# Altium schematic symbol library Research.SchLib: 62 symbols
Pins are listed as number, name and electrical type; pins without a type are passive.

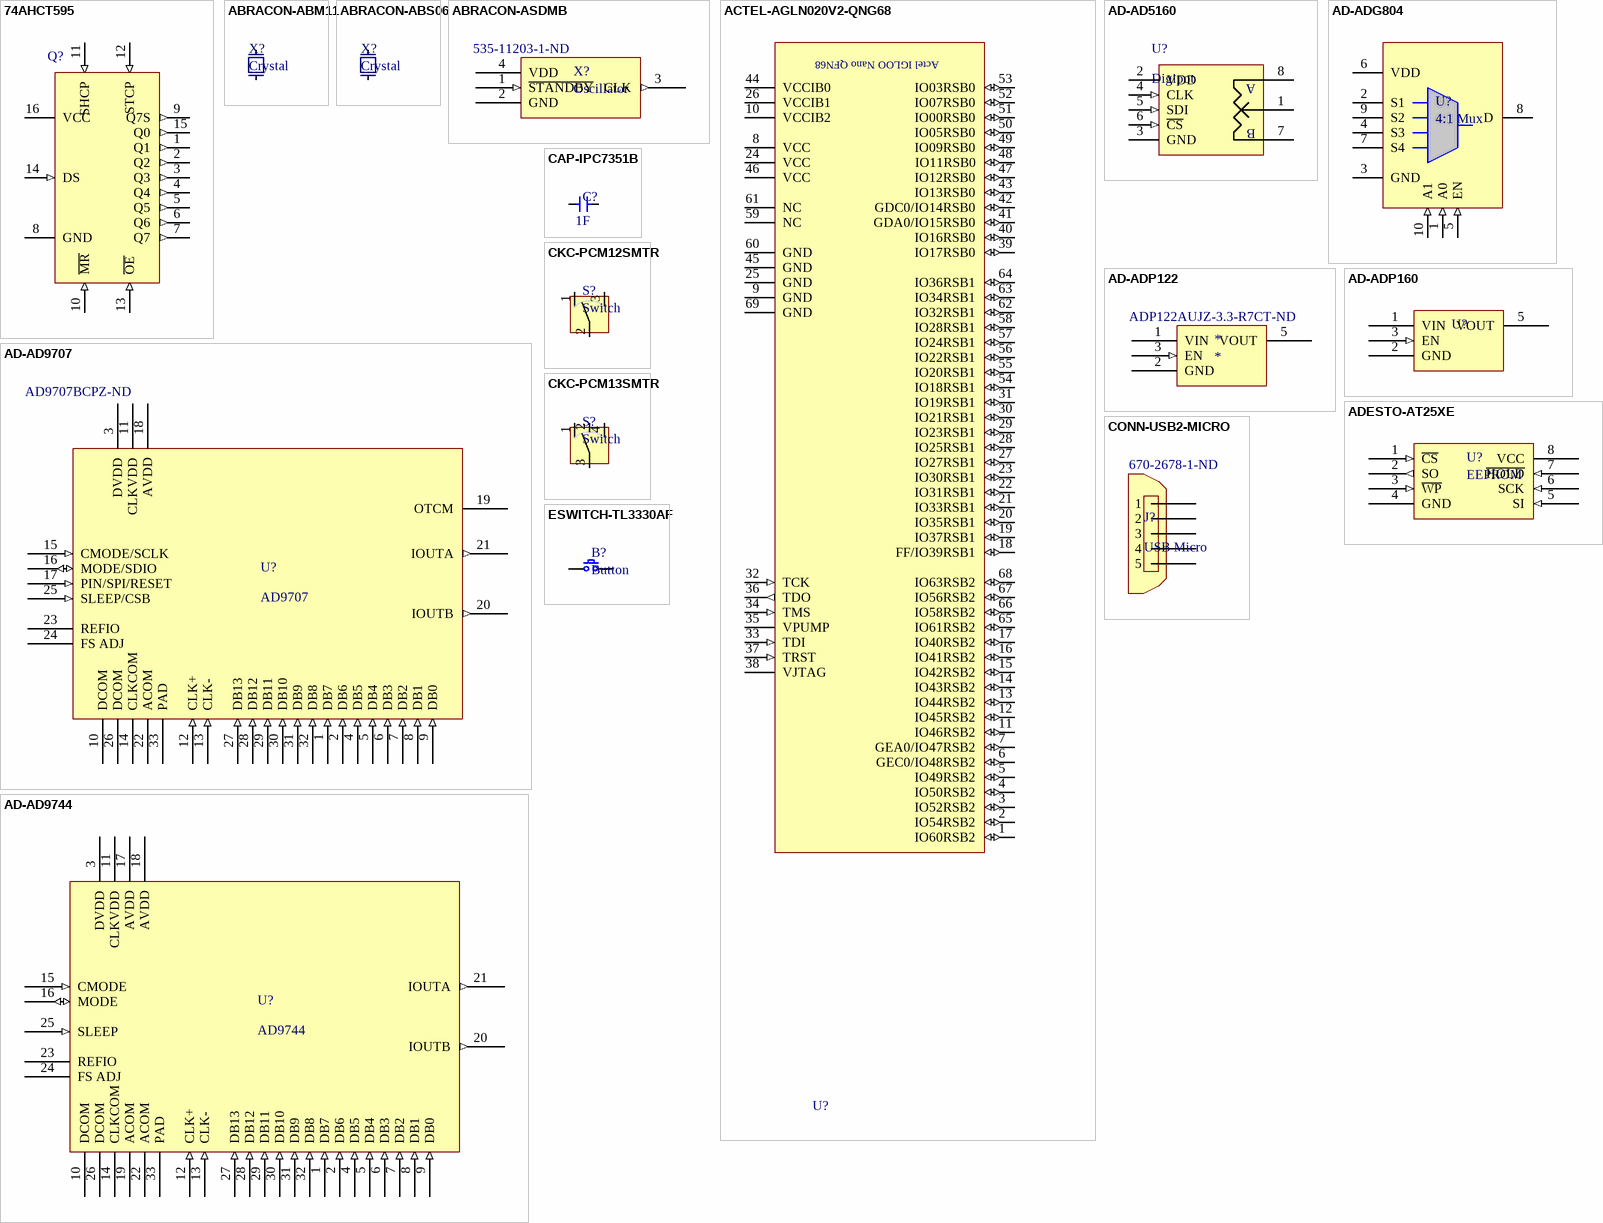
[diagram p0: symbols 74AHCT595 to ESWITCH-TL3330AF]

## 74AHCT595
designator Q?, comment Shift Register  (value not drawn)
8-bit serial-in/serial-out or parallel-out shift register with output latches
footprint TSOP65P640X110-16N (TSOP, 16-Leads, Body 5.00x4.40mm, Pitch 0.65mm, IPC Medium Density)
pins: 1 Q1 (out), 2 Q2 (out), 3 Q3 (out), 4 Q4 (out), 5 Q5 (out), 6 Q6 (out), 7 Q7 (out), 8 GND (power), 9 Q7S (out), 10 ~{MR} (in), 11 SHCP (in), 12 STCP (in), 13 ~{OE} (in), 14 DS (in), 15 Q0 (out), 16 VCC (power)

## ABRACON-ABM11
designator X?, comment Crystal
Ceramics SMD Ultra Miniature Quartz Crystal
footprint ABRACON-ABM11 (Ceramics SMD Ultra Miniature Quartz Crystal)
pins: 1, 2 (power) hidden to GND, 3, 4 (power) hidden to GND

## ABRACON-ABS06
designator X?, comment Crystal
32.768 kHz SMD low profile crystal
footprint ABRACON-ABS06 (32.768kHz SMD LOW PROFILE CRYSTAL)
pins: 1, 2

## ABRACON-ASDMB
designator X?, comment Oscillator  Supplier Part Number 1: 535-11203-1-ND
Abracon MEMS Clock Oscillator; Supplier 1: Digi-Key
footprint ABRACON-ASDMB (Abracon MEMS Clock Oscillator)
pins: 1 ~{STANDBY} (in), 2 GND (power), 3 CLK (out), 4 VDD (power)

## ACTEL-AGLN020V2-QNG68
designator U?, comment IGLOO nano  (value not drawn)
IGLOO nano Low Power Flash FPGA
footprint QFN40P800X800X100_HS-69N (QFN, 68-Leads, Body 8.00x8.00mm, Pitch 0.40mm, Thermal Pad 2.92x2.92mm, IPC Medium Density)
pins: 1 IO60RSB2 (io), 2 IO54RSB2 (io), 3 IO52RSB2 (io), 4 IO50RSB2 (io), 5 IO49RSB2 (io), 6 GEC0/IO48RSB2 (io), 7 GEA0/IO47RSB2 (io), 8 VCC (power), 9 GND (power), 10 VCCIB2 (power), 11 IO46RSB2 (io), 12 IO45RSB2 (io), 13 IO44RSB2 (io), 14 IO43RSB2 (io), 15 IO42RSB2 (io), 16 IO41RSB2 (io), 17 IO40RSB2 (io), 18 FF/IO39RSB1 (io), 19 IO37RSB1 (io), 20 IO35RSB1 (io), 21 IO33RSB1 (io), 22 IO31RSB1 (io), 23 IO30RSB1 (io), 24 VCC (power), 25 GND (power), 26 VCCIB1 (power), 27 IO27RSB1 (io), 28 IO25RSB1 (io), 29 IO23RSB1 (io), 30 IO21RSB1 (io), 31 IO19RSB1 (io), 32 TCK (in), 33 TDI (in), 34 TMS (in), 35 VPUMP (power), 36 TDO (out), 37 TRST (in), 38 VJTAG (power), 39 IO17RSB0 (io), 40 IO16RSB0 (io), 41 GDA0/IO15RSB0 (io), 42 GDC0/IO14RSB0 (io), 43 IO13RSB0 (io), 44 VCCIB0 (power), 45 GND (power), 46 VCC (power), 47 IO12RSB0 (io), 48 IO11RSB0 (io), 49 IO09RSB0 (io), 50 IO05RSB0 (io), 51 IO00RSB0 (io), 52 IO07RSB0 (io), 53 IO03RSB0 (io), 54 IO18RSB1 (io), 55 IO20RSB1 (io), 56 IO22RSB1 (io), 57 IO24RSB1 (io), 58 IO28RSB1 (io), 59 NC, 60 GND (power), 61 NC, 62 IO32RSB1 (io), 63 IO34RSB1 (io), 64 IO36RSB1 (io), 65 IO61RSB2 (io), 66 IO58RSB2 (io), 67 IO56RSB2 (io), 68 IO63RSB2 (io), 69 GND (power)
text: Actel IGLOO Nano QFN68

## AD-AD5160
designator U?, comment Digipot
256-Position SPI-Compatible Digital Potentiometer
footprint TSOP65P280X145-8N (TSOP, 8-Leads, Body 2.90x1.60mm, Pitch 0.65mm, IPC Medium Density)
footprint TSOP65P280X145-8L (TSOP, 8-Leads, Body 2.90x1.60mm, Pitch 0.65mm, IPC High Density)
pins: 1 W, 2 VDD (power), 3 GND (power), 4 CLK (in), 5 SDI (in), 6 ~{CS} (in), 7 B, 8 A

## AD-AD9707
designator U?, comment AD9707  Supplier Part Number 1: AD9707BCPZ-ND
14-Bit, 175 MSPS 4th Generation TxDAC; Supplier 1: Digi-Key
footprint QFN50P500X500X100_HS-33N (QFN, 32-Leads, Body 5.00x5.00mm, Pitch 0.50mm, Thermal Pad 3.10x3.10mm, IPC Medium Density)
pins: 1 DB7 (in), 2 DB6 (in), 3 DVDD (power), 4 DB5 (in), 5 DB4 (in), 6 DB3 (in), 7 DB2 (in), 8 DB1 (in), 9 DB0 (in), 10 DCOM (power), 11 CLKVDD (power), 12 CLK+ (in), 13 CLK- (in), 14 CLKCOM (power), 15 CMODE/SCLK (in), 16 MODE/SDIO (io), 17 PIN/SPI/RESET (in), 18 AVDD (power), 19 OTCM, 20 IOUTB (out), 21 IOUTA (out), 22 ACOM (power), 23 REFIO (power), 24 FS ADJ, 25 SLEEP/CSB (in), 26 DCOM (power), 27 DB13 (in), 28 DB12 (in), 29 DB11 (in), 30 DB10 (in), 31 DB9 (in), 32 DB8 (in), 33 PAD (power)

## AD-AD9744
designator U?, comment AD9744
14-Bit, 210 MSPS 3rd Generation TxDAC
footprint QFN50P500X500X80_HS-33N (QFN, 32-Leads, Body 5.00x5.00mm, Pitch 0.50mm, Thermal Pad 3.10x3.10mm, IPC Medium Density)
pins: 1 DB7 (in), 2 DB6 (in), 3 DVDD (power), 4 DB5 (in), 5 DB4 (in), 6 DB3 (in), 7 DB2 (in), 8 DB1 (in), 9 DB0 (in), 10 DCOM (power), 11 CLKVDD (power), 12 CLK+ (in), 13 CLK- (in), 14 CLKCOM (power), 15 CMODE (in), 16 MODE (io), 17 AVDD (power), 18 AVDD (power), 19 ACOM (power), 20 IOUTB (out), 21 IOUTA (out), 22 ACOM (power), 23 REFIO (power), 24 FS ADJ, 25 SLEEP (in), 26 DCOM (power), 27 DB13 (in), 28 DB12 (in), 29 DB11 (in), 30 DB10 (in), 31 DB9 (in), 32 DB8 (in), 33 PAD (power)

## AD-ADG804
designator U?, comment 4:1 Mux
0.5 O CMOS 1.65 V TO 3.6 V  4-Channel Multiplexer
footprint TSSOP50P490X110-10N (TSSOP, 10-Leads, Body 3.00x3.00mm, Pitch 0.50mm, IPC Medium Density)
pins: 1 A0 (in), 2 S1, 3 GND (power), 4 S3, 5 EN (in), 6 VDD (power), 7 S4, 8 D, 9 S2, 10 A1 (in)

## AD-ADP122
designator *  Supplier Part Number 1: ADP122AUJZ-3.3-R7CT-ND
Supplier 1: Digi-Key
footprint SOT95P280X100-5L (SOT23, 5-Leads, Body 2.90x2.80mm, Pitch 0.95mm, IPC High Density)
pins: 1 VIN (power), 2 GND (power), 3 EN (in), 4 NC hidden, 5 VOUT (power)

## AD-ADP160
designator U?, comment LDO  (value not drawn)
footprint SOT95P280X100-5L (SOT23, 5-Leads, Body 2.90x2.80mm, Pitch 0.95mm, IPC High Density)
pins: 1 VIN (power), 2 GND (power), 3 EN (in), 4 NC hidden, 5 VOUT (power)

## ADESTO-AT25XE
designator U?, comment EEPROM
Adesto SPI Serial Flash Memory with Dual-I/O Support
footprint DFN50P200X300X60-8N (DFN, 8-Leads, Body 2.00x3.00mm, Pitch 0.50mm, IPC Medium Density)
pins: 1 ~{CS} (in) "Chip Select", 2 SO (out) "Serial Data Output", 3 ~{WP} (in) "Write Protect", 4 GND (power) "Ground", 5 SI (in) "Serial Data Input", 6 SCK (in) "Serial Clock", 7 ~{HOLD} (in) "Hold", 8 VCC (power) "Supply Voltage"

## CAP-IPC7351B
designator C?, comment 1F
SMD Capacitor Following IPC-7351B Based on TDK's Product Line; Value: 1F
footprint CAPC0603X03L (Chip Capacitor, 2-Leads, Body 0.60x0.30mm, IPC High Density)
footprint CAPC0603X03M (Chip Capacitor, 2-Leads, Body 0.60x0.30mm, IPC Low Density)
footprint CAPC0603X03N (Chip Capacitor, 2-Leads, Body 0.60x0.30mm, IPC Medium Density)
footprint CAPC1005X05L (Chip Capacitor, 2-Leads, Body 1.00x0.50mm, IPC High Density)
footprint CAPC1005X05M (Chip Capacitor, 2-Leads, Body 1.00x0.50mm, IPC Low Density)
footprint CAPC1005X05N (Chip Capacitor, 2-Leads, Body 1.00x0.50mm, IPC Medium Density)
footprint CAPC1608X08L (Chip Capacitor, 2-Leads, Body 1.60x0.80mm, IPC High Density)
footprint CAPC1608X08M (Chip Capacitor, 2-Leads, Body 1.60x0.80mm, IPC Low Density)
footprint CAPC1608X08N (Chip Capacitor, 2-Leads, Body 1.60x0.80mm, IPC Medium Density)
footprint CAPC2012X12L (Chip Capacitor, 2-Leads, Body 2.00x1.25mm, IPC High Density)
footprint CAPC2012X12M (Chip Capacitor, 2-Leads, Body 2.00x1.25mm, IPC Low Density)
footprint CAPC2012X12N (Chip Capacitor, 2-Leads, Body 2.00x1.25mm, IPC Medium Density)
footprint CAPC3216X16L (Chip Capacitor, 2-Leads, Body 3.20x1.60mm, IPC High Density)
footprint CAPC3216X16M (Chip Capacitor, 2-Leads, Body 3.20x1.60mm, IPC Low Density)
footprint CAPC3216X16N (Chip Capacitor, 2-Leads, Body 3.20x1.60mm, IPC Medium Density)
footprint CAPC3225X25L (Chip Capacitor, 2-Leads, Body 3.20x2.50mm, IPC High Density)
footprint CAPC3225X25M (Chip Capacitor, 2-Leads, Body 3.20x2.50mm, IPC Low Density)
footprint CAPC3225X25N (Chip Capacitor, 2-Leads, Body 3.20x2.50mm, IPC Medium Density)
pins: 1, 2

## CKC-PCM12SMTR
designator S?, comment Switch
C&K Components SPDT Switch, Right Angle
footprint CKC-PCM12SMTR (C&K Components Ultraminiature Surface Mount Slide Switch)
pins: 1, 2, 3

## CKC-PCM13SMTR
designator S?, comment Switch
C&K Components SPTT Switch, Right Angle
footprint CKC-PCM13SMTR (C&K Components Ultraminiature Surface Mount Slide Switch)
pins: 1, 2, 3, 4

## CONN-USB2-MICRO
designator J?, comment USB Micro  Supplier Part Number 1: 670-2678-1-ND
USB 2.0 Micro Connector; Supplier 1: Digi-Key
footprint JAE-DX4R005JJ7R1500 (JAE Inline Micro USB Connector)
pins: 1, 2, 3, 4, 5

## ESWITCH-TL3330AF
designator B?, comment Button
E-Switch TL3330AF Series
footprint ESWITCH-TL3330AF (E-Switch TL3330AF Series Tactile Switch)
pins: 1, 2

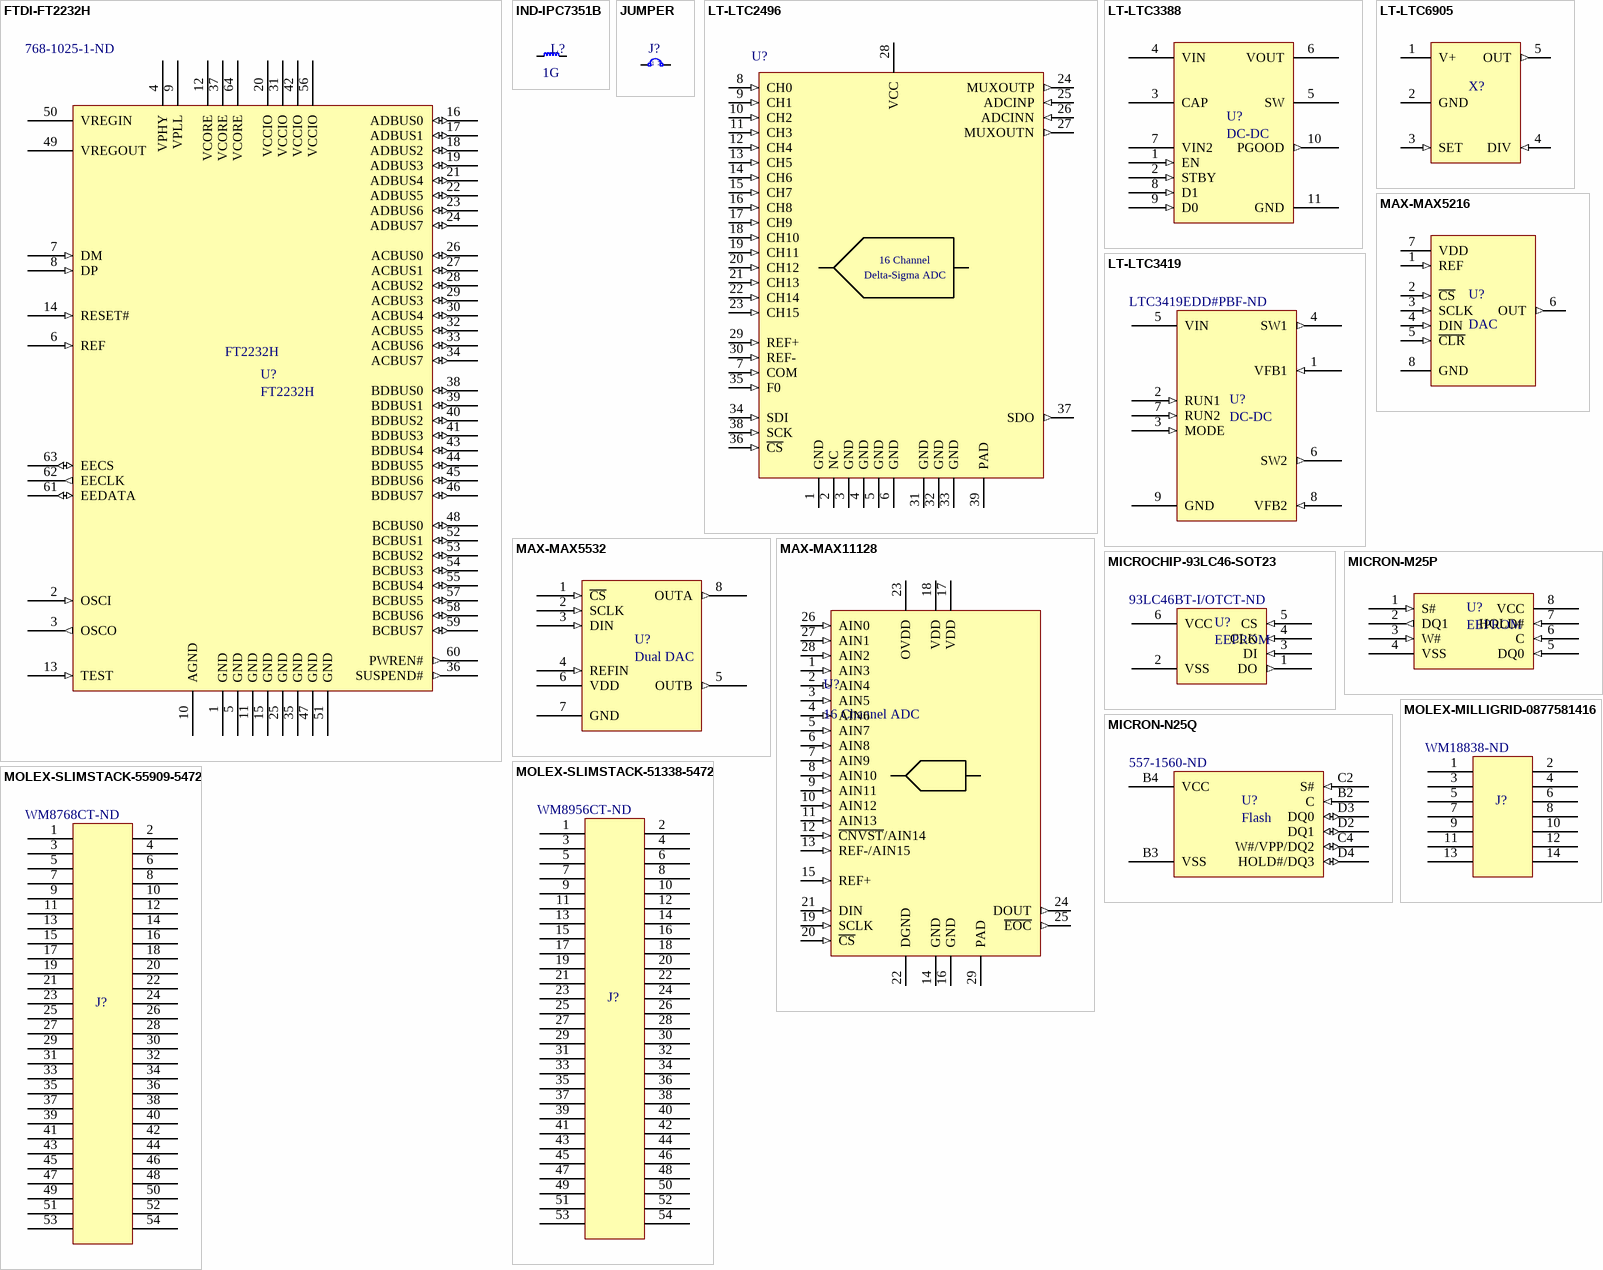
[diagram p1: symbols FTDI-FT2232H to MOLEX-SLIMSTACK-55909-5472]

## FTDI-FT2232H
designator U?, comment FT2232H  Supplier Part Number 1: 768-1025-1-ND
FTDI High-Speed USB to UART/JTAG/FIFO Bridge; Supplier 1: Digi-Key
footprint QFN50P900X900X91-64N (QFN, 64-Leads, Body 9.00x9.00mm, Pitch 0.50mm, IPC Medium Density)
pins: 1 GND (power), 2 OSCI (in), 3 OSCO (out), 4 VPHY (power), 5 GND (power), 6 REF (in), 7 DM (in), 8 DP (in), 9 VPLL (power), 10 AGND (power), 11 GND (power), 12 VCORE (power), 13 TEST (in), 14 RESET# (in), 15 GND (power), 16 ADBUS0 (io), 17 ADBUS1 (io), 18 ADBUS2 (io), 19 ADBUS3 (io), 20 VCCIO (power), 21 ADBUS4 (io), 22 ADBUS5 (io), 23 ADBUS6 (io), 24 ADBUS7 (io), 25 GND (power), 26 ACBUS0 (io), 27 ACBUS1 (io), 28 ACBUS2 (io), 29 ACBUS3 (io), 30 ACBUS4 (io), 31 VCCIO (power), 32 ACBUS5 (io), 33 ACBUS6 (io), 34 ACBUS7 (io), 35 GND (power), 36 SUSPEND# (out), 37 VCORE (power), 38 BDBUS0 (io), 39 BDBUS1 (io), 40 BDBUS2 (io), 41 BDBUS3 (io), 42 VCCIO (power), 43 BDBUS4 (io), 44 BDBUS5 (io), 45 BDBUS6 (io), 46 BDBUS7 (io), 47 GND (power), 48 BCBUS0 (io), 49 VREGOUT (power), 50 VREGIN (power), 51 GND (power), 52 BCBUS1 (io), 53 BCBUS2 (io), 54 BCBUS3 (io), 55 BCBUS4 (io), 56 VCCIO (power), 57 BCBUS5 (io), 58 BCBUS6 (io), 59 BCBUS7 (io), 60 PWREN# (out), 61 EEDATA (io), 62 EECLK (out), 63 EECS (io), 64 VCORE (power)

## IND-IPC7351B
designator L?  value 1G
SMD Inductor Following IPC-7351B Based on Murata's EMIFIL Product Line
footprint INDC1005X06L (Chip Inductor, 2-Leads, Body 1.00x0.50mm, IPC High Density)
footprint INDC1005X06M (Chip Inductor, 2-Leads, Body 1.00x0.50mm, IPC Low Density)
footprint INDC1005X06N (Chip Inductor, 2-Leads, Body 1.00x0.50mm, IPC Medium Density)
footprint INDC1608X09L (Chip Inductor, 2-Leads, Body 1.60x0.80mm, IPC High Density)
footprint INDC1608X09M (Chip Inductor, 2-Leads, Body 1.60x0.80mm, IPC Low Density)
footprint INDC1608X09N (Chip Inductor, 2-Leads, Body 1.60x0.80mm, IPC Medium Density)
pins: 1, 2

## JUMPER
designator J?, comment Jumper  (value not drawn)
footprint CONNECTOR-2POS-1ROW-2.54MM (Connector, 2 Positions, 1 Row, 2.54mm Spacing)
footprint RESC0603X03L (Chip Resistor, 2-Leads, Body 0.60x0.30mm, IPC High Density)
footprint RESC0603X03M (Chip Resistor, 2-Leads, Body 0.60x0.30mm, IPC Low Density)
footprint RESC0603X03N (Chip Resistor, 2-Leads, Body 0.60x0.30mm, IPC Medium Density)
footprint RESC1005X04L (Chip Resistor, 2-Leads, Body 1.00x0.52mm, IPC High Density)
footprint RESC1005X04M (Chip Resistor, 2-Leads, Body 1.00x0.52mm, IPC Low Density)
footprint RESC1005X04N (Chip Resistor, 2-Leads, Body 1.00x0.52mm, IPC Medium Density)
footprint RESC1608X06L (Chip Resistor, 2-Leads, Body 1.60x0.80mm, IPC High Density)
footprint RESC1608X06M (Chip Resistor, 2-Leads, Body 1.60x0.80mm, IPC Low Density)
footprint RESC1608X06N (Chip Resistor, 2-Leads, Body 1.60x0.80mm, IPC Medium Density)
pins: 1, 2

## LT-LTC2496
designator U?, comment 16 Channel ADC  (value not drawn)
16-Bit 8-/16-Channel  ?S ADC with Easy Drive  Input Current Cancellation
footprint QFN50P700X500X80_HS-39N (QFN, 38-Leads, Body 7.00x5.00mm, Pitch 0.50mm, Thermal Pad 5.15x3.15mm, IPC Medium Density)
pins: 1 GND (power), 2 NC, 3 GND (power), 4 GND (power), 5 GND (power), 6 GND (power), 7 COM (in), 8 CH0 (in), 9 CH1 (in), 10 CH2 (in), 11 CH3 (in), 12 CH4 (in), 13 CH5 (in), 14 CH6 (in), 15 CH7 (in), 16 CH8 (in), 17 CH9 (in), 18 CH10 (in), 19 CH11 (in), 20 CH12 (in), 21 CH13 (in), 22 CH14 (in), 23 CH15 (in), 24 MUXOUTP (out), 25 ADCINP (in), 26 ADCINN (in), 27 MUXOUTN (out), 28 VCC (power), 29 REF+ (in), 30 REF- (in), 31 GND (power), 32 GND (power), 33 GND (power), 34 SDI (in), 35 F0 (in), 36 ~{CS} (in), 37 SDO (out), 38 SCK (in), 39 PAD (power)
text: 16 Channel; Delta-Sigma ADC

## LT-LTC3388
designator U?, comment DC-DC
Linear Technology 20V High Efficiency  Nanopower Step-Down Regulator
footprint DFN50P300X300X80_HS-11M (DFN, 10-Leads, Body 3.00x3.00mm, Pitch 0.50mm, Thermal Pad 2.38x1.65mm, IPC Low Density)
pins: 1 EN (in), 2 STBY (in), 3 CAP, 4 VIN (power), 5 SW (power), 6 VOUT (power), 7 VIN2 (power), 8 D1 (in), 9 D0 (in), 10 PGOOD (out), 11 GND (power)

## LT-LTC3419
designator U?, comment DC-DC  Supplier Part Number 1: LTC3419EDD#PBF-ND
Linear Technology Dual Monolithic 600 mA Synchronous Step-Down Regulator; Supplier 1: Digi-Key
footprint DFN50P300X300X80_HS-9N (DFN, 8-Leads, Body 3.00x3.00mm, Pitch 0.50mm, Thermal Pad 2.38x1.65mm, IPC Medium Density)
pins: 1 VFB1 (in) "Supply Voltage", 2 RUN1 (in) "Supply Voltage", 3 MODE (in) "Supply Voltage", 4 SW1 (out) "Supply Voltage", 5 VIN (power) "Supply Voltage", 6 SW2 (out) "Supply Voltage", 7 RUN2 (in) "Supply Voltage", 8 VFB2 (in) "Supply Voltage", 9 GND (power) "Supply Voltage"

## LT-LTC6905
designator X?, comment Oscillator  (value not drawn)
17 MHz to 170 MHz Resistor Set SOT-23 Oscillator
footprint SOT95P280X100-5L (SOT23, 5-Leads, Body 2.90x2.80mm, Pitch 0.95mm, IPC High Density)
pins: 1 V+ (power), 2 GND (power), 3 SET (in), 4 DIV (in), 5 OUT (out)

## MAX-MAX5216
designator U?, comment DAC
16-Bit, Low-Power,  High-Performance, Buffered Single DACs
footprint TSOP65P490X110-8N (TSOP, 8-Leads, Body 3.00x3.00mm, Pitch 0.65mm, IPC Medium Density)
pins: 1 REF (in), 2 ~{CS} (in), 3 SCLK (in), 4 DIN (in), 5 ~{CLR} (in), 6 OUT (out), 7 VDD (power), 8 GND (power)

## MAX-MAX5532
designator U?, comment Dual DAC
Maxim Dual, Ultra-Low-Power,  12-Bit, Voltage-Output DACs
footprint TSOP65P490X110-8N (TSOP, 8-Leads, Body 3.00x3.00mm, Pitch 0.65mm, IPC Medium Density)
pins: 1 ~{CS} (in), 2 SCLK (in), 3 DIN (in), 4 REFIN (in), 5 OUTB (out), 6 VDD (power), 7 GND (power), 8 OUTA (out)

## MAX-MAX11128
designator U?, comment 16 Channel ADC
1Msps, Low-Power, Serial 12-Bit, 16-Channel ADCs
footprint QFN50P500X500X80_HS-29N (QFN, 28-Leads, Body 5.00x5.00mm, Pitch 0.50mm, Thermal Pad 3.25x3.25mm, IPC Medium Density)
pins: 1 AIN3 (in), 2 AIN4 (in), 3 AIN5 (in), 4 AIN6 (in), 5 AIN7 (in), 6 AIN8 (in), 7 AIN9 (in), 8 AIN10 (in), 9 AIN11 (in), 10 AIN12 (in), 11 AIN13 (in), 12 ~{CNVST}/AIN14 (in), 13 REF-/AIN15 (in), 14 GND (power), 15 REF+ (in), 16 GND (power), 17 VDD (power), 18 VDD (power), 19 SCLK (in), 20 ~{CS} (in), 21 DIN (in), 22 DGND (power), 23 OVDD (power), 24 DOUT (out), 25 ~{EOC} (out), 26 AIN0 (in), 27 AIN1 (in), 28 AIN2 (in), 29 PAD (power)

## MICROCHIP-93LC46-SOT23
designator U?, comment EEPROM  Supplier Part Number 1: 93LC46BT-I/OTCT-ND
1 kb serial EEPROM; Supplier 1: Digi-Key
footprint SOT95P280X145-6L (SOT23, 6-Leads, Body 2.90x2.80mm, Pitch 0.95mm, IPC High Density)
pins: 1 DO (out), 2 VSS (power), 3 DI (in), 4 CLK (in), 5 CS (in), 6 VCC (power)

## MICRON-M25P
designator U?, comment EEPROM
Micron M25Px Serial Flash
footprint DFN80P400X300X60_HS-9L (DFN, 8-Leads, Body 4.00x3.00mm, Pitch 0.80mm, Thermal Pad 2.40x0.30mm, IPC High Density)
pins: 1 S# (in) "Chip Select", 2 DQ1 (out) "Serial Data Output", 3 W# (in) "Write Protect", 4 VSS (power) "Ground", 5 DQ0 (in) "Serial Data Input", 6 C (in) "Serial Clock", 7 HOLD# (in) "Hold", 8 VCC (power) "Supply Voltage"

## MICRON-N25Q
designator U?, comment Flash  Supplier Part Number 1: 557-1560-ND
Micron NOR Flash, N25Q; Supplier 1: Digi-Key
footprint BGA24C100P5X5_600X800X100 (BGA, 24-Leads, Body 6.00x8.00mmx1.00mm, Pitch 1.00mm)
pins: A2 NC hidden "Supply Voltage", A3 NC hidden "Supply Voltage", A4 NC hidden "Supply Voltage", A5 NC hidden "Supply Voltage", B1 NC hidden "Supply Voltage", B2 C (in) "Supply Voltage", B3 VSS (power) "Supply Voltage", B4 VCC (power) "Supply Voltage", B5 NC hidden "Supply Voltage", C1 NC hidden "Supply Voltage", C2 S# (in) "Supply Voltage", C3 NC hidden "Supply Voltage", C4 W#/VPP/DQ2 (io) "Supply Voltage", C5 NC hidden "Supply Voltage", D1 NC hidden "Supply Voltage", D2 DQ1 (io) "Supply Voltage", D3 DQ0 (io) "Supply Voltage", D4 HOLD#/DQ3 (io) "Supply Voltage", D5 NC hidden "Supply Voltage", E1 NC hidden "Supply Voltage", E2 NC hidden "Supply Voltage", E3 NC hidden "Supply Voltage", E4 NC hidden "Supply Voltage", E5 NC hidden "Supply Voltage"

## MOLEX-MILLIGRID-0877581416
designator J?, comment Supplier Part Number 1: WM18838-ND  (hidden comment: Molex)
Molex Milli-Grid Male Header, 14 Pins, 2 Rows, 2 mm Pitch; Supplier 1: Digi-Key
footprint MOLEX-MILLIGRID-0877581416 (Molex Milli-Grid, 14 Pin, 2 Row Male Header, 2 mm Pitch)
pins: 1, 2, 3, 4, 5, 6, 7, 8, 9, 10, 11, 12, 13, 14

## MOLEX-SLIMSTACK-51338-5472
designator J?, comment Supplier Part Number 1: WM8956CT-ND  (hidden comment: Molex)
Molex SlimStack Board-to-Board Connector, 54 pins, 1.5 mm Height; Supplier 1: Digi-Key
footprint MOLEX-SLIMSTACK-51338-5473 (Molex SlimStack Board-to-Board Conenctor, 54 pins, 1.5 mm Mated Height)
pins: 1, 2, 3, 4, 5, 6, 7, 8, 9, 10, 11, 12, 13, 14, 15, 16, 17, 18, 19, 20, 21, 22, 23, 24, 25, 26, 27, 28, 29, 30, 31, 32, 33, 34, 35, 36, 37, 38, 39, 40, 41, 42, 43, 44, 45, 46, 47, 48, 49, 50, 51, 52, 53, 54

## MOLEX-SLIMSTACK-55909-5472
designator J?, comment Supplier Part Number 1: WM8768CT-ND  (hidden comment: Molex)
Molex SlimStack Board-to-Board Connector, 54 pins, 1.5 mm Height; Supplier 1: Digi-Key
footprint MOLEX-SLIMSTACK-55909-5472 (Molex SlimStack Board-to-Board Conenctor, 54 pins, 1.5 mm Mated Height)
pins: 1, 2, 3, 4, 5, 6, 7, 8, 9, 10, 11, 12, 13, 14, 15, 16, 17, 18, 19, 20, 21, 22, 23, 24, 25, 26, 27, 28, 29, 30, 31, 32, 33, 34, 35, 36, 37, 38, 39, 40, 41, 42, 43, 44, 45, 46, 47, 48, 49, 50, 51, 52, 53, 54

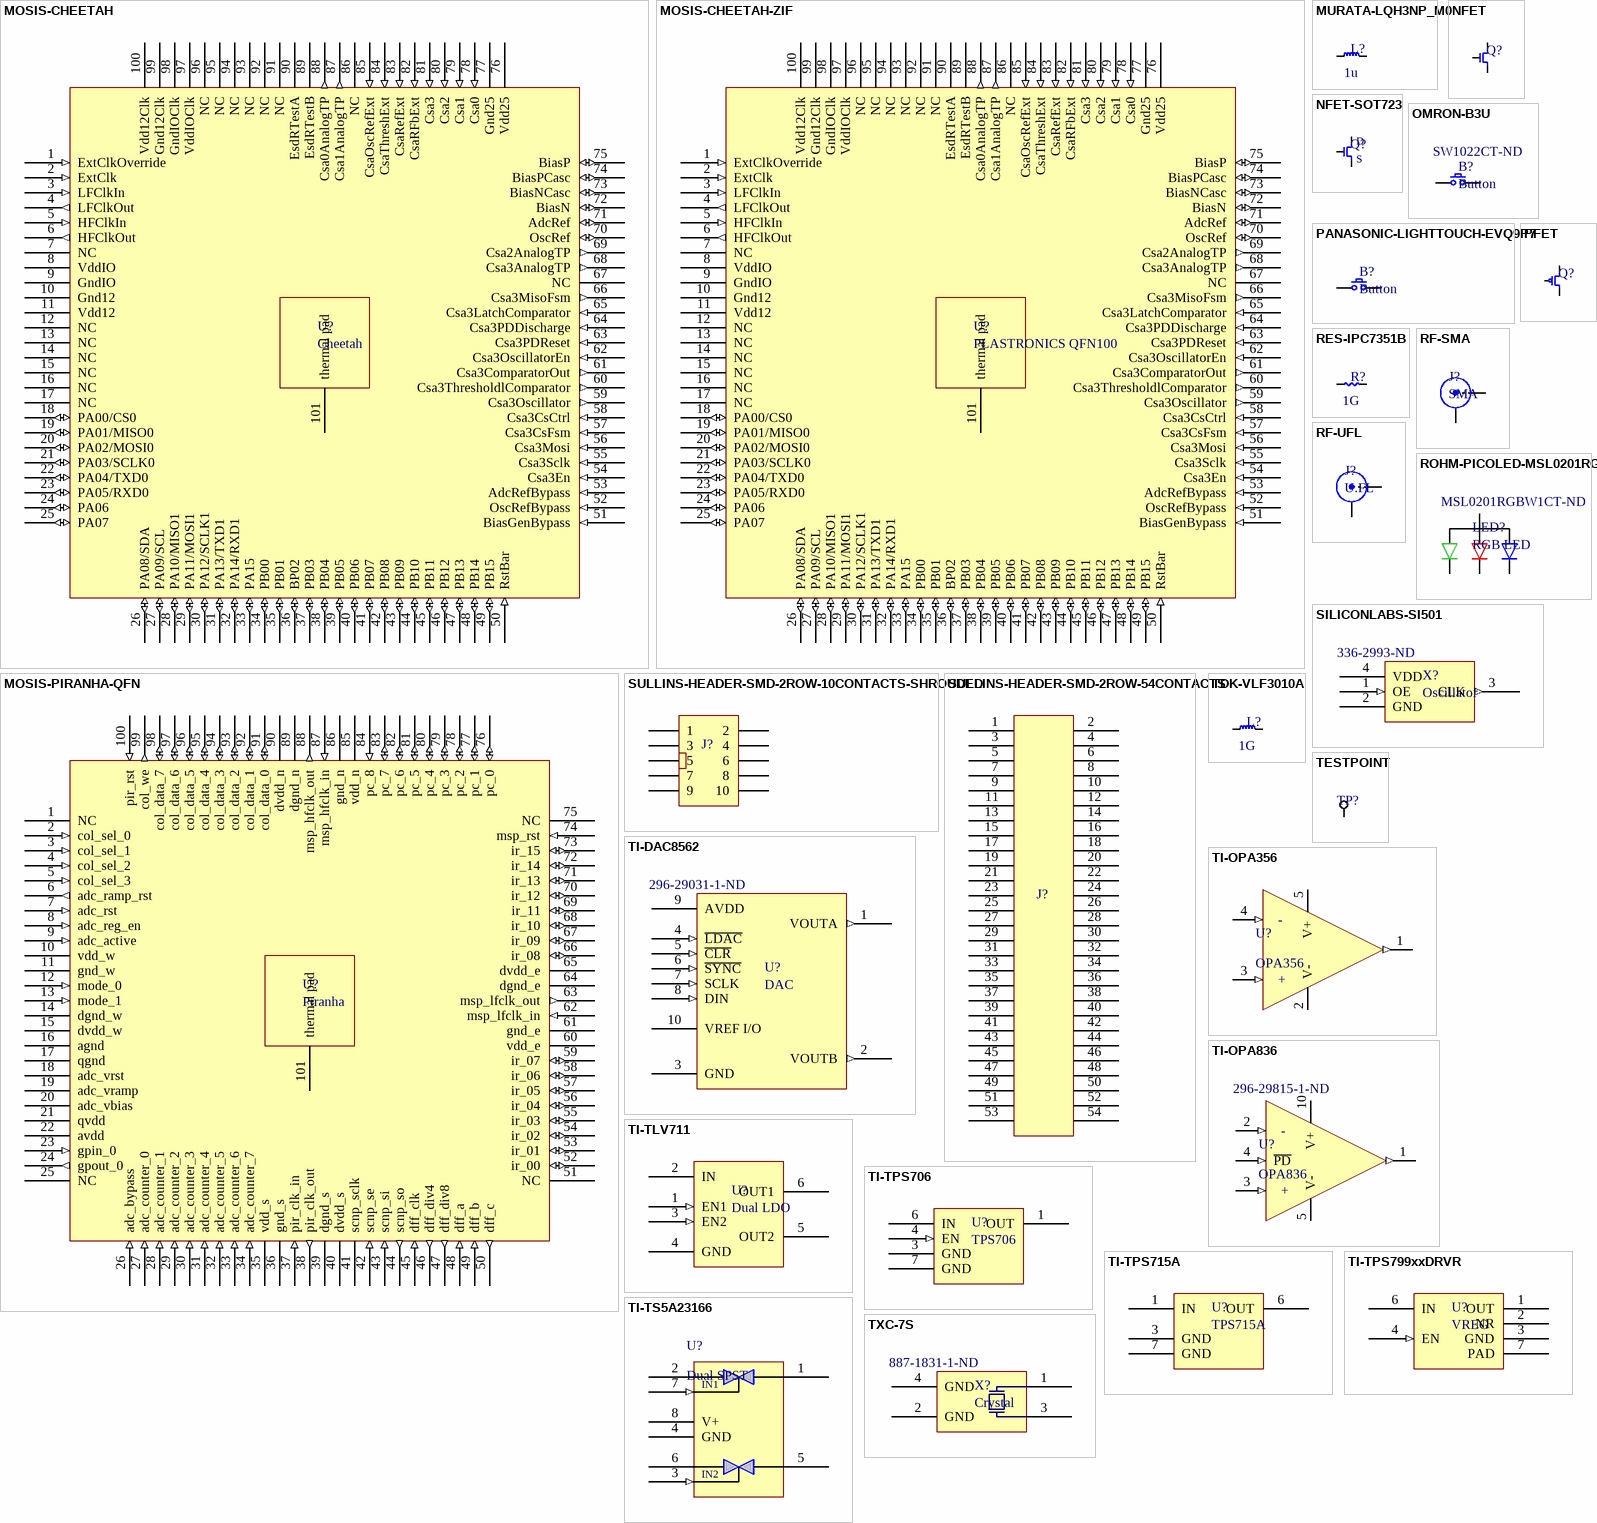
[diagram p2: symbols MOSIS-CHEETAH to TXC-7S]

## MOSIS-CHEETAH
designator U?, comment Cheetah
Ultra Low Power Charge Sensitive Radiation Front End
footprint QFN40P1200X1200X80_HS-101M (QFN, 100-Leads, Body 12.00x12.00mm, Pitch 0.40mm, Thermal Pad 9.20x9.20mm, IPC Low Density)
footprint QFN40P1200X1200X80_HS-101L (QFN, 100-Leads, Body 12.00x12.00mm, Pitch 0.40mm, Thermal Pad 9.20x9.20mm, IPC High Density)
footprint QFN40P1200X1200X80_HS-101N (QFN, 100-Leads, Body 12.00x12.00mm, Pitch 0.40mm, Thermal Pad 9.20x9.20mm, IPC Medium Density)
pins: 1 ExtClkOverride (in), 2 ExtClk (in), 3 LFClkIn (in), 4 LFClkOut (out), 5 HFClkIn (in), 6 HFClkOut (out), 7 NC, 8 VddIO (power), 9 GndIO (power), 10 Gnd12 (power), 11 Vdd12 (power), 12 NC, 13 NC, 14 NC, 15 NC, 16 NC, 17 NC, 18 PA00/CS0 (io), 19 PA01/MISO0 (io), 20 PA02/MOSI0 (io), 21 PA03/SCLK0 (io), 22 PA04/TXD0 (io), 23 PA05/RXD0 (io), 24 PA06 (io), 25 PA07 (io), 26 PA08/SDA (io), 27 PA09/SCL (io), 28 PA10/MISO1 (io), 29 PA11/MOSI1 (io), 30 PA12/SCLK1 (io), 31 PA13/TXD1 (io), 32 PA14/RXD1 (io), 33 PA15 (io), 34 PB00 (io), 35 PB01 (io), 36 BP02 (io), 37 PB03 (io), 38 PB04 (io), 39 PB05 (io), 40 PB06 (io), 41 PB07 (io), 42 PB08 (io), 43 PB09 (io), 44 PB10 (io), 45 PB11 (io), 46 PB12 (io), 47 PB13 (io), 48 PB14 (io), 49 PB15 (io), 50 RstBar (in), 51 BiasGenBypass (in), 52 OscRefBypass (in), 53 AdcRefBypass (in), 54 Csa3En (in), 55 Csa3Sclk (in), 56 Csa3Mosi (in), 57 Csa3CsFsm (in), 58 Csa3CsCtrl (in), 59 Csa3Oscillator (out), 60 Csa3ThresholdlComparator (out), 61 Csa3ComparatorOut (out), 62 Csa3OscillatorEn (in), 63 Csa3PDReset (in), 64 Csa3PDDischarge (in), 65 Csa3LatchComparator (in), 66 Csa3MisoFsm (out), 67 NC, 68 Csa3AnalogTP (out), 69 Csa2AnalogTP (out), 70 OscRef (io), 71 AdcRef (io), 72 BiasN (io), 73 BiasNCasc (io), 74 BiasPCasc (io), 75 BiasP (io), 76 Vdd25 (power), 77 Gnd25 (power), 78 Csa0 (in), 79 Csa1 (in), 80 Csa2 (in), 81 Csa3 (in), 82 CsaRFbExt (in), 83 CsaRefExt (in), 84 CsaThreshExt (in), 85 CsaOscRefExt (in), 86 NC, 87 Csa1AnalogTP (out), 88 Csa0AnalogTP (out), 89 EsdRTestB, 90 EsdRTestA, 91 NC, 92 NC, 93 NC, 94 NC, 95 NC, 96 NC, 97 VddIOClk (power), 98 GndIOClk (power), 99 Gnd12Clk (power), 100 Vdd12Clk (power), 101 thermal pad

## MOSIS-CHEETAH-ZIF
designator U?, comment PLASTRONICS QFN100
Plastronics ZIF for Cheetah
footprint PLASTRONICS-100QN40S1120120 (Plastronics QFN socket, 12x12mm, 0.4mm pitch, 100 contacts, spring probe center pin, PTH)
footprint PLASTRONICS-100QN40S1120120-OSH2LAYER (Plastronics QFN socket, 12x12mm, 0.4mm pitch, 100 contacts, spring probe center pin, PTH)
pins: 1 ExtClkOverride (in), 2 ExtClk (in), 3 LFClkIn (in), 4 LFClkOut (out), 5 HFClkIn (in), 6 HFClkOut (out), 7 NC, 8 VddIO (power), 9 GndIO (power), 10 Gnd12 (power), 11 Vdd12 (power), 12 NC, 13 NC, 14 NC, 15 NC, 16 NC, 17 NC, 18 PA00/CS0 (io), 19 PA01/MISO0 (io), 20 PA02/MOSI0 (io), 21 PA03/SCLK0 (io), 22 PA04/TXD0 (io), 23 PA05/RXD0 (io), 24 PA06 (io), 25 PA07 (io), 26 PA08/SDA (io), 27 PA09/SCL (io), 28 PA10/MISO1 (io), 29 PA11/MOSI1 (io), 30 PA12/SCLK1 (io), 31 PA13/TXD1 (io), 32 PA14/RXD1 (io), 33 PA15 (io), 34 PB00 (io), 35 PB01 (io), 36 BP02 (io), 37 PB03 (io), 38 PB04 (io), 39 PB05 (io), 40 PB06 (io), 41 PB07 (io), 42 PB08 (io), 43 PB09 (io), 44 PB10 (io), 45 PB11 (io), 46 PB12 (io), 47 PB13 (io), 48 PB14 (io), 49 PB15 (io), 50 RstBar (in), 51 BiasGenBypass (in), 52 OscRefBypass (in), 53 AdcRefBypass (in), 54 Csa3En (in), 55 Csa3Sclk (in), 56 Csa3Mosi (in), 57 Csa3CsFsm (in), 58 Csa3CsCtrl (in), 59 Csa3Oscillator (out), 60 Csa3ThresholdlComparator (out), 61 Csa3ComparatorOut (out), 62 Csa3OscillatorEn (in), 63 Csa3PDReset (in), 64 Csa3PDDischarge (in), 65 Csa3LatchComparator (in), 66 Csa3MisoFsm (out), 67 NC, 68 Csa3AnalogTP (out), 69 Csa2AnalogTP (out), 70 OscRef (io), 71 AdcRef (io), 72 BiasN (io), 73 BiasNCasc (io), 74 BiasPCasc (io), 75 BiasP (io), 76 Vdd25 (power), 77 Gnd25 (power), 78 Csa0 (in), 79 Csa1 (in), 80 Csa2 (in), 81 Csa3 (in), 82 CsaRFbExt (in), 83 CsaRefExt (in), 84 CsaThreshExt (in), 85 CsaOscRefExt (in), 86 NC, 87 Csa1AnalogTP (out), 88 Csa0AnalogTP (out), 89 EsdRTestB, 90 EsdRTestA, 91 NC, 92 NC, 93 NC, 94 NC, 95 NC, 96 NC, 97 VddIOClk (power), 98 GndIOClk (power), 99 Gnd12Clk (power), 100 Vdd12Clk (power), 101 thermal pad

## MOSIS-PIRANHA-QFN
designator U?, comment Piranha
Parallel Neighborhood-Based CMOS Smart Camera
footprint QFN40P1200X1200X80_HS-101M (QFN, 100-Leads, Body 12.00x12.00mm, Pitch 0.40mm, Thermal Pad 9.20x9.20mm, IPC Low Density)
footprint QFN40P1200X1200X80_HS-101L (QFN, 100-Leads, Body 12.00x12.00mm, Pitch 0.40mm, Thermal Pad 9.20x9.20mm, IPC High Density)
footprint QFN40P1200X1200X80_HS-101N (QFN, 100-Leads, Body 12.00x12.00mm, Pitch 0.40mm, Thermal Pad 9.20x9.20mm, IPC Medium Density)
pins: 1 NC, 2 col_sel_0 (in), 3 col_sel_1 (in), 4 col_sel_2 (in), 5 col_sel_3 (in), 6 adc_ramp_rst (out), 7 adc_rst (in), 8 adc_reg_en (in), 9 adc_active (in), 10 vdd_w (power), 11 gnd_w (power), 12 mode_0 (in), 13 mode_1 (in), 14 dgnd_w (power), 15 dvdd_w (power), 16 agnd (power), 17 qgnd, 18 adc_vrst, 19 adc_vramp, 20 adc_vbias, 21 qvdd, 22 avdd (power), 23 gpin_0 (in), 24 gpout_0 (out), 25 NC, 26 adc_bypass (in), 27 adc_counter_0 (in), 28 adc_counter_1 (in), 29 adc_counter_2 (in), 30 adc_counter_3 (in), 31 adc_counter_4 (in), 32 adc_counter_5 (in), 33 adc_counter_6 (in), 34 adc_counter_7 (in), 35 vdd_s (power), 36 gnd_s (power), 37 pir_clk_in (in), 38 pir_clk_out (out), 39 dgnd_s (power), 40 dvdd_s (power), 41 scnp_sclk, 42 scnp_se (in), 43 scnp_si (in), 44 scnp_so (out), 45 dff_clk (in), 46 dff_div4 (out), 47 dff_div8 (out), 48 dff_a (in), 49 dff_b (in), 50 dff_c (out), 51 NC, 52 ir_00 (io), 53 ir_01 (io), 54 ir_02 (io), 55 ir_03 (io), 56 ir_04 (io), 57 ir_05 (io), 58 ir_06 (io), 59 ir_07 (io), 60 vdd_e (power), 61 gnd_e (power), 62 msp_lfclk_in (in), 63 msp_lfclk_out (out), 64 dgnd_e (power), 65 dvdd_e (power), 66 ir_08 (io), 67 ir_09 (io), 68 ir_10 (io), 69 ir_11 (io), 70 ir_12 (io), 71 ir_13 (io), 72 ir_14 (io), 73 ir_15 (io), 74 msp_rst (in), 75 NC, 76 pc_0 (io), 77 pc_1 (io), 78 pc_2 (io), 79 pc_3 (io), 80 pc_4 (io), 81 pc_5 (io), 82 pc_6 (io), 83 pc_7 (io), 84 pc_8 (in), 85 vdd_n (power), 86 gnd_n (power), 87 msp_hfclk_in (in), 88 msp_hfclk_out (out), 89 dgnd_n (power), 90 dvdd_n (power), 91 col_data_0 (io), 92 col_data_1 (io), 93 col_data_2 (io), 94 col_data_3 (io), 95 col_data_4 (io), 96 col_data_5 (io), 97 col_data_6 (io), 98 col_data_7 (io), 99 col_we (out), 100 pir_rst (in), 101 thermal pad

## MURATA-LQH3NP_M0
designator L?  value 1u
MURATA - Chip Inductor (Chip Coil) Power Inductor (Wire Wound Type)
footprint INDC3030X15N (Chip Inductor, 2-Leads, Body 3.00x3.00mm, IPC Medium Density)
pins: 1, 2

## NFET
designator Q?
Generic NFET; Value: 1G
footprint SOT95P230X110-3L (SOT23, 3-Leads, Body 2.90x2.30mm, Pitch 0.95mm, IPC High Density)
footprint SOT95P230X110-3M (SOT23, 3-Leads, Body 2.90x2.30mm, Pitch 0.95mm, IPC Low Density)
footprint SOT95P230X110-3N (SOT23, 3-Leads, Body 2.90x2.30mm, Pitch 0.95mm, IPC Medium Density)
pins: 1 G, 2 S, 3 D

## NFET-SOT723
designator Q?
Generic NFET; Value: 1G
footprint SOT-723 (SOT-723 SMD Transistor Package)
pins: 1 G, 2 D, 3 S

## OMRON-B3U
designator B?, comment Button  Supplier Part Number 1: SW1022CT-ND
Ultra-Small-Sized Tactile Switch with High Contact Reliability; Supplier 1: Digi-Key
footprint OMRON-B3U-3000P (Ultra-Small-Sized Tactile Switch with High Contact Reliability)
pins: 1, 2

## PANASONIC-LIGHTTOUCH-EVQ9P7
designator B?, comment Button
Panasonic Light Touch SMD Pushbutton, Right Angle Mount
footprint PANASONIC-LIGHTTOUCH-EVQPL (Panasonic Light Touch SMD push button)
pins: A, B, GND hidden to GND

## PFET
designator Q?
Generic PFET; Value: 1G
footprint SOT95P230X110-3L (SOT23, 3-Leads, Body 2.90x2.30mm, Pitch 0.95mm, IPC High Density)
footprint SOT95P230X110-3M (SOT23, 3-Leads, Body 2.90x2.30mm, Pitch 0.95mm, IPC Low Density)
footprint SOT95P230X110-3N (SOT23, 3-Leads, Body 2.90x2.30mm, Pitch 0.95mm, IPC Medium Density)
pins: 1 G, 2 S, 3 D

## RES-IPC7351B
designator R?  value 1G
SMD Resistor Following IPC-7351B Based on Panasonics's Product Line
footprint RESC0603X03L (Chip Resistor, 2-Leads, Body 0.60x0.30mm, IPC High Density)
footprint RESC0603X03M (Chip Resistor, 2-Leads, Body 0.60x0.30mm, IPC Low Density)
footprint RESC0603X03N (Chip Resistor, 2-Leads, Body 0.60x0.30mm, IPC Medium Density)
footprint RESC1005X04L (Chip Resistor, 2-Leads, Body 1.00x0.52mm, IPC High Density)
footprint RESC1005X04M (Chip Resistor, 2-Leads, Body 1.00x0.52mm, IPC Low Density)
footprint RESC1005X04N (Chip Resistor, 2-Leads, Body 1.00x0.52mm, IPC Medium Density)
footprint RESC1608X06L (Chip Resistor, 2-Leads, Body 1.60x0.80mm, IPC High Density)
footprint RESC1608X06M (Chip Resistor, 2-Leads, Body 1.60x0.80mm, IPC Low Density)
footprint RESC1608X06N (Chip Resistor, 2-Leads, Body 1.60x0.80mm, IPC Medium Density)
footprint RESC2012X06L (Chip Resistor, 2-Leads, Body 2.00x1.25mm, IPC High Density)
footprint RESC2012X06N (Chip Resistor, 2-Leads, Body 2.00x1.25mm, IPC Medium Density)
footprint RESC2012X06M (Chip Resistor, 2-Leads, Body 2.00x1.25mm, IPC Low Density)
footprint RESC3216X07L (Chip Resistor, 2-Leads, Body 3.20x1.55mm, IPC High Density)
footprint RESC3216X07M (Chip Resistor, 2-Leads, Body 3.20x1.55mm, IPC Low Density)
footprint RESC3216X07N (Chip Resistor, 2-Leads, Body 3.20x1.55mm, IPC Medium Density)
pins: 1, 2

## RF-SMA
designator J?, comment SMA
SMA RF Connector
footprint SMA-142-0701-801 (Johnson/Cinch Connectivity Solutions 142-0701-801 Edge Mount SMA Connector)
pins: SHIELD, SIGNAL

## RF-UFL
designator J?, comment U.FL
U.FL RF Connector
footprint U.FL (Hirose U.FL RF Connector)
pins: GND, SIG

## ROHM-PICOLED-MSL0201RGB
designator LED?, comment RGB LED  Supplier Part Number 1: MSL0201RGBW1CT-ND
Rohm PicoLED Side View RGB LED; Supplier 1: Digi-Key
footprint ROHM-PICOLED-MSL0201RGB (Small and Thin Side View Package RGB LED)
pins: ANODE, B, G, R

## SILICONLABS-SI501
designator X?, comment Oscillator  Supplier Part Number 1: 336-2993-ND
Silicon Labs CMEMS CMOS Clock Oscillator; Supplier 1: Digi-Key
footprint SILICONLABS-SI501 (Silicon Labs CMEMS CMOS Clock Oscillator)
pins: 1 OE (in), 2 GND (power), 3 CLK (out), 4 VDD (power)

## SULLINS-HEADER-SMD-2ROW-10CONTACTS-SHROUDED
designator J?, comment Header  (value not drawn)
Sullins Male Header with 10 contacts in 2 rows, SMD, Shrouded
footprint SULLINS-SBH11-NBPC-D05-SM-BK (CONN HEADR 2.54MM 10POS GOLD SMD)
pins: 1, 2, 3, 4, 5, 6, 7, 8, 9, 10

## SULLINS-HEADER-SMD-2ROW-54CONTACTS
designator J?, comment Header  (value not drawn)
Sullins Male Header with 54 contacts in 2 rows, SMD
footprint SULLINS-HEADER-MALE-SMD (CONN HEADER 54POS .100 DUAL SMD)
pins: 1, 2, 3, 4, 5, 6, 7, 8, 9, 10, 11, 12, 13, 14, 15, 16, 17, 18, 19, 20, 21, 22, 23, 24, 25, 26, 27, 28, 29, 30, 31, 32, 33, 34, 35, 36, 37, 38, 39, 40, 41, 42, 43, 44, 45, 46, 47, 48, 49, 50, 51, 52, 53, 54

## TDK-VLF3010A
designator L?  value 1G
TDK Power Inductor with 3x3 mm Footprint and 1 mm Height
footprint INDP2826X10N (Precision Wire Wound Inductor, 2-Leads, Body 2.80x2.60mm, IPC Medium Density)
pins: 1, 2

## TESTPOINT
designator TP?, comment Test Point  (value not drawn)
Probe Test Point
footprint TESTPOINT-2MM (Test point, 2 mm)
footprint TESTPOINT-1MM (Test point, 1 mm)
footprint TESTPOINT-PTH-100mil (Test point, PTH, 0.1" Header)
footprint TESTPOINT-0603 (Test point, 0603 footprint)
pins: 1 TP

## TI-DAC8562
designator U?, comment DAC  Supplier Part Number 1: 296-29031-1-ND
DUAL 16 bit, Ultralow-Glitch, Low Power, Buffered, Voltage-Output DAC with 2.5 V Internal Reference, 3x3 mm SON; Supplier 1: Digi-Key
footprint DFN50P300X300X80-10N (DFN, 10-Leads, Body 3.00x3.00mm, Pitch 0.50mm, IPC Medium Density)
pins: 1 VOUTA (out), 2 VOUTB (out), 3 GND (power), 4 ~{LDAC} (in), 5 ~{CLR} (in), 6 ~{SYNC} (in), 7 SCLK (in), 8 DIN (in), 9 AVDD (power), 10 VREF I/O

## TI-OPA356
designator U?, comment OPA356
200 MHz CMOS Op Amp
footprint SOT95P280X145-5L (SOT23, 5-Leads, Body 2.90x2.80mm, Pitch 0.95mm, IPC High Density)
pins: 1 Output (out), 2 V- (power), 3 Noninverting Input (in), 4 Inverting Input (in), 5 V+ (power)
text: -; +

## TI-OPA836
designator U?, comment OPA836  Supplier Part Number 1: 296-29815-1-ND
Very Low-Power, Rail-to-Rail Out, Negative Rail In, VFB Op Amp; Supplier 1: Digi-Key
footprint QFN50P200X200X80-10L (QFN, 10-Leads, Body 2.00x2.00mm, Pitch 0.50mm, IPC High Density)
pins: 1 Output (out), 2 Inverting Input (in), 3 Noninverting Input (in), 4 ~{PD} (in), 5 V- (power), 6 FB4 hidden, 7 FB3 hidden, 8 FB2 hidden, 9 FB1 hidden, 10 V+ (power)
text: -; +

## TI-TLV711
designator U?, comment Dual LDO
Dual, 200mA, Low-IQ  Low-Dropout Regulator for Portable Devices; Voltage-Output: *
footprint DFN50P150X150X80-6L (DFN, 6-Leads, Body 1.50x1.50mm, Pitch 0.50mm, IPC High Density)
footprint DFN50P150X150X80-6M (DFN, 6-Leads, Body 1.50x1.50mm, Pitch 0.50mm, IPC Low Density)
footprint DFN50P150X150X80-6N (DFN, 6-Leads, Body 1.50x1.50mm, Pitch 0.50mm, IPC Medium Density)
pins: 1 EN1 (in), 2 IN (power), 3 EN2 (in), 4 GND (power), 5 OUT2 (power), 6 OUT1 (power)

## TI-TPS706
designator U?, comment TPS706
LDO
footprint DFN65P200X200X80_HS-7N (DFN, 6-Leads, Body 2.00x2.00mm, Pitch 0.65mm, Thermal Pad 1.00x1.60mm, IPC Medium Density)
pins: 1 OUT (power), 2 NC hidden, 3 GND (power), 4 EN (in), 4 NC hidden, 4 NC hidden, 5 NC hidden, 6 IN (power), 7 GND (power)

## TI-TPS715A
designator U?, comment TPS715A
LDO
footprint DFN65P200X200X80_HS-7N (DFN, 6-Leads, Body 2.00x2.00mm, Pitch 0.65mm, Thermal Pad 1.00x1.60mm, IPC Medium Density)
pins: 1 IN (power), 2 NC hidden, 3 GND (power), 4 NC hidden, 4 NC hidden, 4 NC hidden, 5 NC hidden, 6 OUT (power), 7 GND (power)

## TI-TPS799xxDRVR
designator U?, comment VREG
Low Dropout Regulator with Enable
footprint DFN65P200X200X80_HS-7N (DFN, 6-Leads, Body 2.00x2.00mm, Pitch 0.65mm, Thermal Pad 1.00x1.60mm, IPC Medium Density)
pins: 1 OUT (power), 2 NR, 3 GND (power), 4 EN (in), 5 NC hidden, 6 IN (power), 7 PAD (power)

## TI-TS5A23166
designator U?, comment Dual SPST
TI - TS5A23166 - 0.9 Ohm Dual-SPST Analog Switch 5-V and 3.3-V 2-Channel Analog Switch
footprint TSSOP50P310X90-8N (TSSOP, 8-Leads, Body 2.00x2.30mm, Pitch 0.50mm, IPC Medium Density)
pins: 1 NO1, 2 COM1, 3 IN2 (in), 4 GND (power), 5 NO2, 6 COM2, 7 IN1 (in), 8 V+ (power)

## TXC-7S
designator X?, comment Crystal  Supplier Part Number 1: 887-1831-1-ND
Supplier 1: Digi-Key
footprint TXC-7S (TXC 7S Series Glass Sealing Clock Crystal)
pins: 1, 2 GND (power), 3, 4 GND (power)

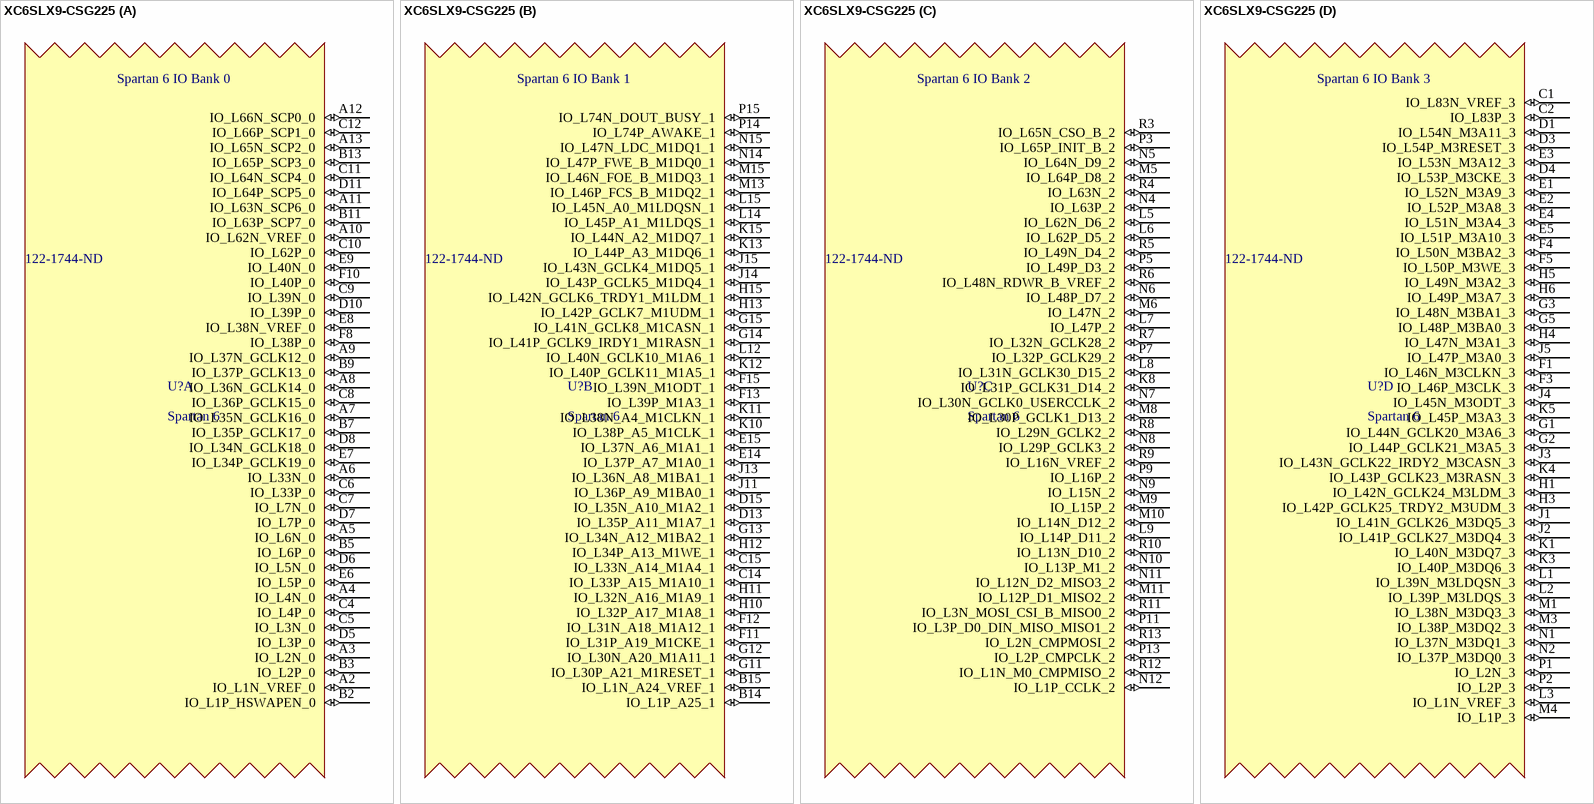
[diagram p3: symbol XC6SLX9-CSG225]

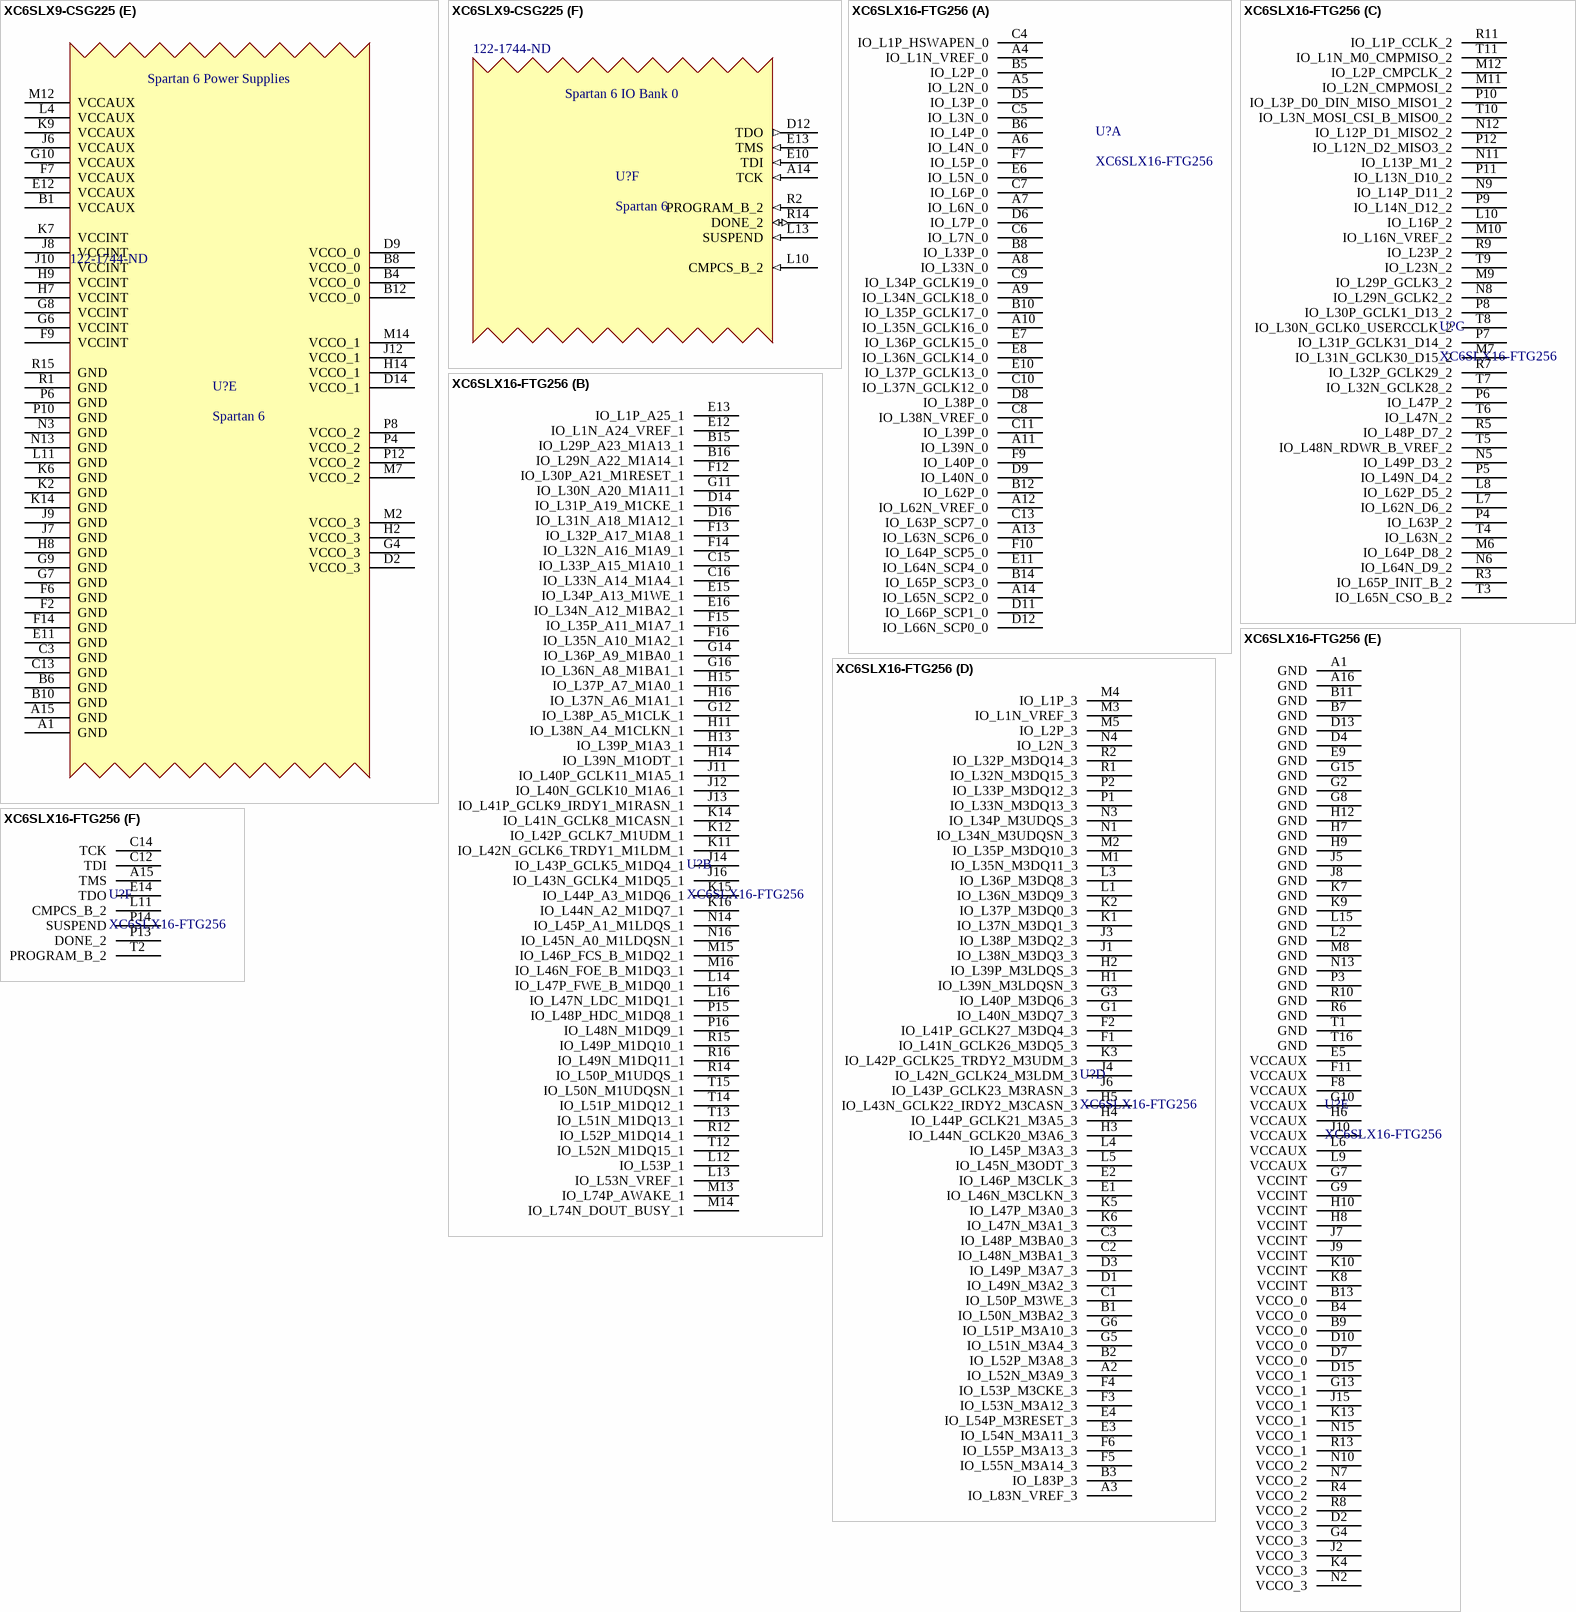
[diagram p4: symbols XC6SLX9-CSG225 to XC6SLX16-FTG256]

## XC6SLX9-CSG225
designator U?, comment Spartan 6  Supplier Part Number 1: 122-1744-ND
Xilinx Spartan 6 FPGA in CSG225 Package; Supplier 1: Digi-Key
footprint BGA225C80P15X15_1300X1300X140 (BGA, 225-Leads, Body 13.00x13.00mmx1.40mm, Pitch 0.80mm)
part A pins: A2 IO_L1N_VREF_0 (io) "TL", A3 IO_L2N_0 (io) "TL", A4 IO_L4N_0 (io) "TL", A5 IO_L6N_0 (io) "TL", A6 IO_L33N_0 (io) "TL", A7 IO_L35N_GCLK16_0 (io) "TL", A8 IO_L36N_GCLK14_0 (io) "TR", A9 IO_L37N_GCLK12_0 (io) "TR", A10 IO_L62N_VREF_0 (io) "TR", A11 IO_L63N_SCP6_0 (io) "TR", A12 IO_L66N_SCP0_0 (io) "TR", A13 IO_L65N_SCP2_0 (io) "TR", B2 IO_L1P_HSWAPEN_0 (io) "TL", B3 IO_L2P_0 (io) "TL", B5 IO_L6P_0 (io) "TL", B7 IO_L35P_GCLK17_0 (io) "TL", B9 IO_L37P_GCLK13_0 (io) "TR", B11 IO_L63P_SCP7_0 (io) "TR", B13 IO_L65P_SCP3_0 (io) "TR", C4 IO_L4P_0 (io) "TL", C5 IO_L3N_0 (io) "TL", C6 IO_L33P_0 (io) "TL", C7 IO_L7N_0 (io) "TL", C8 IO_L36P_GCLK15_0 (io) "TR", C9 IO_L39N_0 (io) "TR", C10 IO_L62P_0 (io) "TR", C11 IO_L64N_SCP4_0 (io) "TR", C12 IO_L66P_SCP1_0 (io) "TR", D5 IO_L3P_0 (io) "TL", D6 IO_L5N_0 (io) "TL", D7 IO_L7P_0 (io) "TL", D8 IO_L34N_GCLK18_0 (io) "TL", D10 IO_L39P_0 (io) "TR", D11 IO_L64P_SCP5_0 (io) "TR", E6 IO_L5P_0 (io) "TL", E7 IO_L34P_GCLK19_0 (io) "TL", E8 IO_L38N_VREF_0 (io) "TR", E9 IO_L40N_0 (io) "TR", F8 IO_L38P_0 (io) "TR", F10 IO_L40P_0 (io) "TR"
part B pins: B14 IO_L1P_A25_1 (io) "RT", B15 IO_L1N_A24_VREF_1 (io) "RT", C14 IO_L33P_A15_M1A10_1 (io) "RT", C15 IO_L33N_A14_M1A4_1 (io) "RT", D13 IO_L35P_A11_M1A7_1 (io) "RT", D15 IO_L35N_A10_M1A2_1 (io) "RT", E14 IO_L37P_A7_M1A0_1 (io) "RT", E15 IO_L37N_A6_M1A1_1 (io) "RT", F11 IO_L31P_A19_M1CKE_1 (io) "RT", F12 IO_L31N_A18_M1A12_1 (io) "RT", F13 IO_L39P_M1A3_1 (io) "RT", F15 IO_L39N_M1ODT_1 (io) "RT", G11 IO_L30P_A21_M1RESET_1 (io) "RT", G12 IO_L30N_A20_M1A11_1 (io) "RT", G13 IO_L34N_A12_M1BA2_1 (io) "RT", G14 IO_L41P_GCLK9_IRDY1_M1RASN_1 (io) "RT", G15 IO_L41N_GCLK8_M1CASN_1 (io) "RT", H10 IO_L32P_A17_M1A8_1 (io) "RT", H11 IO_L32N_A16_M1A9_1 (io) "RT", H12 IO_L34P_A13_M1WE_1 (io) "RT", H13 IO_L42P_GCLK7_M1UDM_1 (io) "RB", H15 IO_L42N_GCLK6_TRDY1_M1LDM_1 (io) "RB", J11 IO_L36P_A9_M1BA0_1 (io) "RT", J13 IO_L36N_A8_M1BA1_1 (io) "RT", J14 IO_L43P_GCLK5_M1DQ4_1 (io) "RB", J15 IO_L43N_GCLK4_M1DQ5_1 (io) "RB", K10 IO_L38P_A5_M1CLK_1 (io) "RT", K11 IO_L38N_A4_M1CLKN_1 (io) "RT", K12 IO_L40P_GCLK11_M1A5_1 (io) "RT", K13 IO_L44P_A3_M1DQ6_1 (io) "RB", K15 IO_L44N_A2_M1DQ7_1 (io) "RB", L12 IO_L40N_GCLK10_M1A6_1 (io) "RT", L14 IO_L45P_A1_M1LDQS_1 (io) "RB", L15 IO_L45N_A0_M1LDQSN_1 (io) "RB", M13 IO_L46P_FCS_B_M1DQ2_1 (io) "RB", M15 IO_L46N_FOE_B_M1DQ3_1 (io) "RB", N14 IO_L47P_FWE_B_M1DQ0_1 (io) "RB", N15 IO_L47N_LDC_M1DQ1_1 (io) "RB", P14 IO_L74P_AWAKE_1 (io) "RB", P15 IO_L74N_DOUT_BUSY_1 (io) "RB"
part C pins: K8 IO_L31P_GCLK31_D14_2 (io) "BL", L5 IO_L62N_D6_2 (io) "BL", L6 IO_L62P_D5_2 (io) "BL", L7 IO_L47P_2 (io) "BL", L8 IO_L31N_GCLK30_D15_2 (io) "BL", L9 IO_L14P_D11_2 (io) "BR", M5 IO_L64P_D8_2 (io) "BL", M6 IO_L47N_2 (io) "BL", M8 IO_L30P_GCLK1_D13_2 (io) "BR", M9 IO_L15P_2 (io) "BR", M10 IO_L14N_D12_2 (io) "BR", M11 IO_L12P_D1_MISO2_2 (io) "BR", N4 IO_L63P_2 (io) "BL", N5 IO_L64N_D9_2 (io) "BL", N6 IO_L48P_D7_2 (io) "BL", N7 IO_L30N_GCLK0_USERCCLK_2 (io) "BR", N8 IO_L29P_GCLK3_2 (io) "BR", N9 IO_L15N_2 (io) "BR", N10 IO_L13P_M1_2 (io) "BR", N11 IO_L12N_D2_MISO3_2 (io) "BR", N12 IO_L1P_CCLK_2 (io) "BR", P3 IO_L65P_INIT_B_2 (io) "BL", P5 IO_L49P_D3_2 (io) "BL", P7 IO_L32P_GCLK29_2 (io) "BL", P9 IO_L16P_2 (io) "BR", P11 IO_L3P_D0_DIN_MISO_MISO1_2 (io) "BR", P13 IO_L2P_CMPCLK_2 (io) "BR", R3 IO_L65N_CSO_B_2 (io) "BL", R4 IO_L63N_2 (io) "BL", R5 IO_L49N_D4_2 (io) "BL", R6 IO_L48N_RDWR_B_VREF_2 (io) "BL", R7 IO_L32N_GCLK28_2 (io) "BL", R8 IO_L29N_GCLK2_2 (io) "BR", R9 IO_L16N_VREF_2 (io) "BR", R10 IO_L13N_D10_2 (io) "BR", R11 IO_L3N_MOSI_CSI_B_MISO0_2 (io) "BR", R12 IO_L1N_M0_CMPMISO_2 (io) "BR", R13 IO_L2N_CMPMOSI_2 (io) "BR"
part D pins: C1 IO_L83N_VREF_3 (io) "LT", C2 IO_L83P_3 (io) "LT", D1 IO_L54N_M3A11_3 (io) "LT", D3 IO_L54P_M3RESET_3 (io) "LT", D4 IO_L53P_M3CKE_3 (io) "LT", E1 IO_L52N_M3A9_3 (io) "LT", E2 IO_L52P_M3A8_3 (io) "LT", E3 IO_L53N_M3A12_3 (io) "LT", E4 IO_L51N_M3A4_3 (io) "LT", E5 IO_L51P_M3A10_3 (io) "LT", F1 IO_L46N_M3CLKN_3 (io) "LT", F3 IO_L46P_M3CLK_3 (io) "LT", F4 IO_L50N_M3BA2_3 (io) "LT", F5 IO_L50P_M3WE_3 (io) "LT", G1 IO_L44N_GCLK20_M3A6_3 (io) "LT", G2 IO_L44P_GCLK21_M3A5_3 (io) "LT", G3 IO_L48N_M3BA1_3 (io) "LT", G5 IO_L48P_M3BA0_3 (io) "LT", H1 IO_L42N_GCLK24_M3LDM_3 (io) "LB", H3 IO_L42P_GCLK25_TRDY2_M3UDM_3 (io) "LB", H4 IO_L47N_M3A1_3 (io) "LT", H5 IO_L49N_M3A2_3 (io) "LT", H6 IO_L49P_M3A7_3 (io) "LT", J1 IO_L41N_GCLK26_M3DQ5_3 (io) "LB", J2 IO_L41P_GCLK27_M3DQ4_3 (io) "LB", J3 IO_L43N_GCLK22_IRDY2_M3CASN_3 (io) "LT", J4 IO_L45N_M3ODT_3 (io) "LT", J5 IO_L47P_M3A0_3 (io) "LT", K1 IO_L40N_M3DQ7_3 (io) "LB", K3 IO_L40P_M3DQ6_3 (io) "LB", K4 IO_L43P_GCLK23_M3RASN_3 (io) "LT", K5 IO_L45P_M3A3_3 (io) "LT", L1 IO_L39N_M3LDQSN_3 (io) "LB", L2 IO_L39P_M3LDQS_3 (io) "LB", L3 IO_L1N_VREF_3 (io) "LB", M1 IO_L38N_M3DQ3_3 (io) "LB", M3 IO_L38P_M3DQ2_3 (io) "LB", M4 IO_L1P_3 (io) "LB", N1 IO_L37N_M3DQ1_3 (io) "LB", N2 IO_L37P_M3DQ0_3 (io) "LB", P1 IO_L2N_3 (io) "LB", P2 IO_L2P_3 (io) "LB"
part E pins: A1 GND (power) "NA", A15 GND (power) "NA", B1 VCCAUX (power) "NA", B4 VCCO_0 (power) "NA", B6 GND (power) "NA", B8 VCCO_0 (power) "NA", B10 GND (power) "NA", B12 VCCO_0 (power) "NA", C3 GND (power) "NA", C13 GND (power) "NA", D2 VCCO_3 (power) "NA", D9 VCCO_0 (power) "NA", D14 VCCO_1 (power) "NA", E11 GND (power) "NA", E12 VCCAUX (power) "NA", F2 GND (power) "NA", F6 GND (power) "NA", F7 VCCAUX (power) "NA", F9 VCCINT (power) "NA", F14 GND (power) "NA", G4 VCCO_3 (power) "NA", G6 VCCINT (power) "NA", G7 GND (power) "NA", G8 VCCINT (power) "NA", G9 GND (power) "NA", G10 VCCAUX (power) "NA", H2 VCCO_3 (power) "NA", H7 VCCINT (power) "NA", H8 GND (power) "NA", H9 VCCINT (power) "NA", H14 VCCO_1 (power) "NA", J6 VCCAUX (power) "NA", J7 GND (power) "NA", J8 VCCINT (power) "NA", J9 GND (power) "NA", J10 VCCINT (power) "NA", J12 VCCO_1 (power) "NA", K2 GND (power) "NA", K6 GND (power) "NA", K7 VCCINT (power) "NA", K9 VCCAUX (power) "NA", K14 GND (power) "NA", L4 VCCAUX (power) "NA", L11 GND (power) "NA", M2 VCCO_3 (power) "NA", M7 VCCO_2 (power) "NA", M12 VCCAUX (power) "NA", M14 VCCO_1 (power) "NA", N3 GND (power) "NA", N13 GND (power) "NA", P4 VCCO_2 (power) "NA", P6 GND (power) "NA", P8 VCCO_2 (power) "NA", P10 GND (power) "NA", P12 VCCO_2 (power) "NA", R1 GND (power) "NA", R15 GND (power) "NA"
part F pins: A14 TCK (in) "NA", D12 TDO (out) "NA", E10 TDI (in) "NA", E13 TMS (in) "NA", L10 CMPCS_B_2 (in) "Reserved.  Leave unconnected.", L13 SUSPEND (in) "NA", R2 PROGRAM_B_2 (in) "NA", R14 DONE_2 (io) "NA"
part A text: Spartan 6 IO Bank 0
part B text: Spartan 6 IO Bank 1
part C text: Spartan 6 IO Bank 2
part D text: Spartan 6 IO Bank 3
part E text: Spartan 6 Power Supplies
part F text: Spartan 6 IO Bank 0

## XC6SLX16-FTG256
designator U?
Xilinx Spartan-6 FPGA in a 256-ball 1 mm pitch BGA package
footprint BGA256C100P16X16_1700X1700X140 (BGA, 256-Leads, Body 17.00x17.00mmx1.40mm, Pitch 1.00mm)
part A pins: A4 IO_L1N_VREF_0 "TL", A5 IO_L2N_0 "TL", A6 IO_L4N_0 "TL", A7 IO_L6N_0 "TL", A8 IO_L33N_0 "TL", A9 IO_L34N_GCLK18_0 "TL", A10 IO_L35N_GCLK16_0 "TL", A11 IO_L39N_0 "TR", A12 IO_L62N_VREF_0 "TR", A13 IO_L63N_SCP6_0 "TR", A14 IO_L65N_SCP2_0 "TR", B5 IO_L2P_0 "TL", B6 IO_L4P_0 "TL", B8 IO_L33P_0 "TL", B10 IO_L35P_GCLK17_0 "TL", B12 IO_L62P_0 "TR", B14 IO_L65P_SCP3_0 "TR", C4 IO_L1P_HSWAPEN_0 "TL", C5 IO_L3N_0 "TL", C6 IO_L7N_0 "TL", C7 IO_L6P_0 "TL", C8 IO_L38N_VREF_0 "TR", C9 IO_L34P_GCLK19_0 "TL", C10 IO_L37N_GCLK12_0 "TR", C11 IO_L39P_0 "TR", C13 IO_L63P_SCP7_0 "TR", D5 IO_L3P_0 "TL", D6 IO_L7P_0 "TL", D8 IO_L38P_0 "TR", D9 IO_L40N_0 "TR", D11 IO_L66P_SCP1_0 "TR", D12 IO_L66N_SCP0_0 "TR", E6 IO_L5N_0 "TL", E7 IO_L36P_GCLK15_0 "TR", E8 IO_L36N_GCLK14_0 "TR", E10 IO_L37P_GCLK13_0 "TR", E11 IO_L64N_SCP4_0 "TR", F7 IO_L5P_0 "TL", F9 IO_L40P_0 "TR", F10 IO_L64P_SCP5_0 "TR"
part B pins: B15 IO_L29P_A23_M1A13_1 "RT", B16 IO_L29N_A22_M1A14_1 "RT", C15 IO_L33P_A15_M1A10_1 "RT", C16 IO_L33N_A14_M1A4_1 "RT", D14 IO_L31P_A19_M1CKE_1 "RT", D16 IO_L31N_A18_M1A12_1 "RT", E12 IO_L1N_A24_VREF_1 "RT", E13 IO_L1P_A25_1 "RT", E15 IO_L34P_A13_M1WE_1 "RT", E16 IO_L34N_A12_M1BA2_1 "RT", F12 IO_L30P_A21_M1RESET_1 "RT", F13 IO_L32P_A17_M1A8_1 "RT", F14 IO_L32N_A16_M1A9_1 "RT", F15 IO_L35P_A11_M1A7_1 "RT", F16 IO_L35N_A10_M1A2_1 "RT", G11 IO_L30N_A20_M1A11_1 "RT", G12 IO_L38P_A5_M1CLK_1 "RT", G14 IO_L36P_A9_M1BA0_1 "RT", G16 IO_L36N_A8_M1BA1_1 "RT", H11 IO_L38N_A4_M1CLKN_1 "RT", H13 IO_L39P_M1A3_1 "RT (RB in LX25)", H14 IO_L39N_M1ODT_1 "RT (RB in LX25)", H15 IO_L37P_A7_M1A0_1 "RT", H16 IO_L37N_A6_M1A1_1 "RT", J11 IO_L40P_GCLK11_M1A5_1 "RT (RB in LX25)", J12 IO_L40N_GCLK10_M1A6_1 "RT (RB in LX25)", J13 IO_L41P_GCLK9_IRDY1_M1RASN_1 "RT (RB in LX25)", J14 IO_L43P_GCLK5_M1DQ4_1 "RB", J16 IO_L43N_GCLK4_M1DQ5_1 "RB", K11 IO_L42N_GCLK6_TRDY1_M1LDM_1 "RB", K12 IO_L42P_GCLK7_M1UDM_1 "RB", K14 IO_L41N_GCLK8_M1CASN_1 "RT (RB in LX25)", K15 IO_L44P_A3_M1DQ6_1 "RB", K16 IO_L44N_A2_M1DQ7_1 "RB", L12 IO_L53P_1 "RB", L13 IO_L53N_VREF_1 "RB", L14 IO_L47P_FWE_B_M1DQ0_1 "RB", L16 IO_L47N_LDC_M1DQ1_1 "RB", M13 IO_L74P_AWAKE_1 "RB", M14 IO_L74N_DOUT_BUSY_1 "RB", M15 IO_L46P_FCS_B_M1DQ2_1 "RB", M16 IO_L46N_FOE_B_M1DQ3_1 "RB", N14 IO_L45P_A1_M1LDQS_1 "RB", N16 IO_L45N_A0_M1LDQSN_1 "RB", P15 IO_L48P_HDC_M1DQ8_1 "RB", P16 IO_L48N_M1DQ9_1 "RB", R12 IO_L52P_M1DQ14_1 "RB", R14 IO_L50P_M1UDQS_1 "RB", R15 IO_L49P_M1DQ10_1 "RB", R16 IO_L49N_M1DQ11_1 "RB", T12 IO_L52N_M1DQ15_1 "RB", T13 IO_L51N_M1DQ13_1 "RB", T14 IO_L51P_M1DQ12_1 "RB", T15 IO_L50N_M1UDQSN_1 "RB"
part C pins: L7 IO_L62N_D6_2 "BL", L8 IO_L62P_D5_2 "BL", L10 IO_L16P_2 "BR", M6 IO_L64P_D8_2 "BL", M7 IO_L31N_GCLK30_D15_2 "BL", M9 IO_L29P_GCLK3_2 "BR", M10 IO_L16N_VREF_2 "BR", M11 IO_L2N_CMPMOSI_2 "BR", M12 IO_L2P_CMPCLK_2 "BR", N5 IO_L49P_D3_2 "BL", N6 IO_L64N_D9_2 "BL", N8 IO_L29N_GCLK2_2 "BR", N9 IO_L14P_D11_2 "BR", N11 IO_L13P_M1_2 "BR", N12 IO_L12P_D1_MISO2_2 "BR", P4 IO_L63P_2 "BL", P5 IO_L49N_D4_2 "BL", P6 IO_L47P_2 "BL", P7 IO_L31P_GCLK31_D14_2 "BL", P8 IO_L30P_GCLK1_D13_2 "BR", P9 IO_L14N_D12_2 "BR", P10 IO_L3P_D0_DIN_MISO_MISO1_2 "BR", P11 IO_L13N_D10_2 "BR", P12 IO_L12N_D2_MISO3_2 "BR", R3 IO_L65P_INIT_B_2 "BL", R5 IO_L48P_D7_2 "BL", R7 IO_L32P_GCLK29_2 "BL", R9 IO_L23P_2 "BR", R11 IO_L1P_CCLK_2 "BR", T3 IO_L65N_CSO_B_2 "BL", T4 IO_L63N_2 "BL", T5 IO_L48N_RDWR_B_VREF_2 "BL", T6 IO_L47N_2 "BL", T7 IO_L32N_GCLK28_2 "BL", T8 IO_L30N_GCLK0_USERCCLK_2 "BR", T9 IO_L23N_2 "BR", T10 IO_L3N_MOSI_CSI_B_MISO0_2 "BR", T11 IO_L1N_M0_CMPMISO_2 "BR"
part D pins: A2 IO_L52N_M3A9_3 "LT", A3 IO_L83N_VREF_3 "LT", B1 IO_L50N_M3BA2_3 "LT", B2 IO_L52P_M3A8_3 "LT", B3 IO_L83P_3 "LT", C1 IO_L50P_M3WE_3 "LT", C2 IO_L48N_M3BA1_3 "LT", C3 IO_L48P_M3BA0_3 "LT", D1 IO_L49N_M3A2_3 "LT", D3 IO_L49P_M3A7_3 "LT", E1 IO_L46N_M3CLKN_3 "LT", E2 IO_L46P_M3CLK_3 "LT", E3 IO_L54N_M3A11_3 "LT", E4 IO_L54P_M3RESET_3 "LT", F1 IO_L41N_GCLK26_M3DQ5_3 "LB", F2 IO_L41P_GCLK27_M3DQ4_3 "LB", F3 IO_L53N_M3A12_3 "LT", F4 IO_L53P_M3CKE_3 "LT", F5 IO_L55N_M3A14_3 "LT", F6 IO_L55P_M3A13_3 "LT", G1 IO_L40N_M3DQ7_3 "LB", G3 IO_L40P_M3DQ6_3 "LB", G5 IO_L51N_M3A4_3 "LT", G6 IO_L51P_M3A10_3 "LT", H1 IO_L39N_M3LDQSN_3 "LB", H2 IO_L39P_M3LDQS_3 "LB", H3 IO_L44N_GCLK20_M3A6_3 "LT( LB in LX25)", H4 IO_L44P_GCLK21_M3A5_3 "LT( LB in LX25)", H5 IO_L43N_GCLK22_IRDY2_M3CASN_3 "LT( LB in LX25)", J1 IO_L38N_M3DQ3_3 "LB", J3 IO_L38P_M3DQ2_3 "LB", J4 IO_L42N_GCLK24_M3LDM_3 "LB", J6 IO_L43P_GCLK23_M3RASN_3 "LT( LB in LX25)", K1 IO_L37N_M3DQ1_3 "LB", K2 IO_L37P_M3DQ0_3 "LB", K3 IO_L42P_GCLK25_TRDY2_M3UDM_3 "LB", K5 IO_L47P_M3A0_3 "LT", K6 IO_L47N_M3A1_3 "LT", L1 IO_L36N_M3DQ9_3 "LB", L3 IO_L36P_M3DQ8_3 "LB", L4 IO_L45P_M3A3_3 "LT( LB in LX25)", L5 IO_L45N_M3ODT_3 "LT( LB in LX25)", M1 IO_L35N_M3DQ11_3 "LB", M2 IO_L35P_M3DQ10_3 "LB", M3 IO_L1N_VREF_3 "LB", M4 IO_L1P_3 "LB", M5 IO_L2P_3 "LB", N1 IO_L34N_M3UDQSN_3 "LB", N3 IO_L34P_M3UDQS_3 "LB", N4 IO_L2N_3 "LB", P1 IO_L33N_M3DQ13_3 "LB", P2 IO_L33P_M3DQ12_3 "LB", R1 IO_L32N_M3DQ15_3 "LB", R2 IO_L32P_M3DQ14_3 "LB"
part E pins: A1 GND "NA", A16 GND "NA", B4 VCCO_0 "NA", B7 GND "NA", B9 VCCO_0 "NA", B11 GND "NA", B13 VCCO_0 "NA", D2 VCCO_3 "NA", D4 GND "NA", D7 VCCO_0 "NA", D10 VCCO_0 "NA", D13 GND "NA", D15 VCCO_1 "NA", E5 VCCAUX "NA", E9 GND "NA", F8 VCCAUX "NA", F11 VCCAUX "NA", G2 GND "NA", G4 VCCO_3 "NA", G7 VCCINT "NA", G8 GND "NA", G9 VCCINT "NA", G10 VCCAUX "NA", G13 VCCO_1 "NA", G15 GND "NA", H6 VCCAUX "NA", H7 GND "NA", H8 VCCINT "NA", H9 GND "NA", H10 VCCINT "NA", H12 GND "NA", J2 VCCO_3 "NA", J5 GND "NA", J7 VCCINT "NA", J8 GND "NA", J9 VCCINT "NA", J10 VCCAUX "NA", J15 VCCO_1 "NA", K4 VCCO_3 "NA", K7 GND "NA", K8 VCCINT "NA", K9 GND "NA", K10 VCCINT "NA", K13 VCCO_1 "NA", L2 GND "NA", L6 VCCAUX "NA", L9 VCCAUX "NA", L15 GND "NA", M8 GND "NA", N2 VCCO_3 "NA", N7 VCCO_2 "NA", N10 VCCO_2 "NA", N13 GND "NA", N15 VCCO_1 "NA", P3 GND "NA", R4 VCCO_2 "NA", R6 GND "NA", R8 VCCO_2 "NA", R10 GND "NA", R13 VCCO_1 "NA", T1 GND "NA", T16 GND "NA"
part F pins: A15 TMS "NA", C12 TDI "NA", C14 TCK "NA", E14 TDO "NA", L11 CMPCS_B_2 "NA", P13 DONE_2 "NA", P14 SUSPEND "NA", T2 PROGRAM_B_2 "NA"